# Altium integrated library con-molex.IntLib: 368 symbols (part 1 of 6)
Pins are listed as number, name and electrical type; pins without a type are passive.

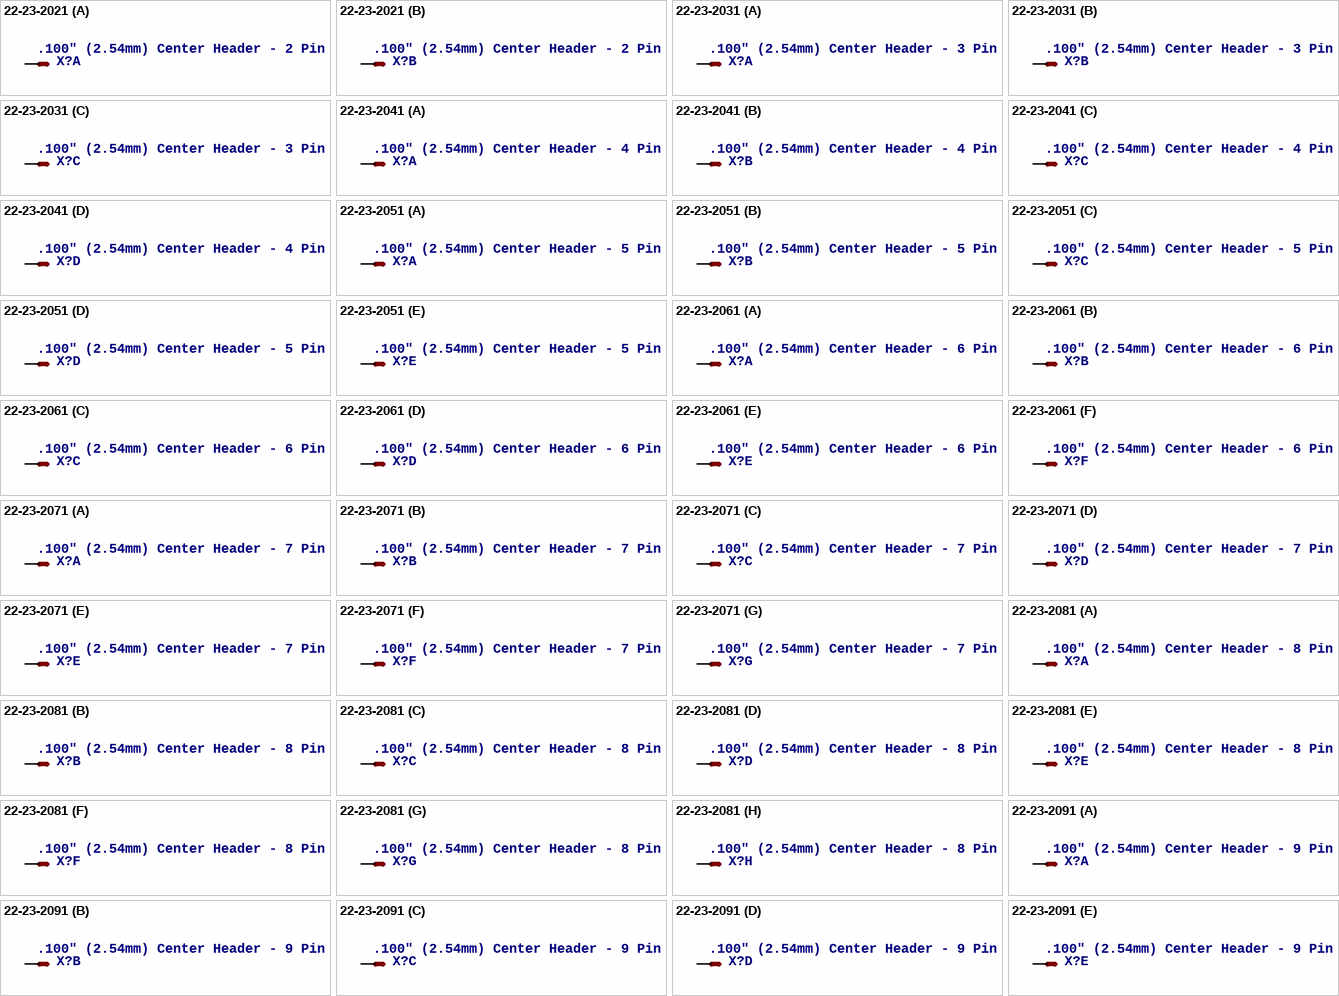
[diagram p0: symbols 22-23-2021 to 22-23-2091]

## 22-23-2021
designator X?, comment .100" (2.54mm) Center Header - 2 Pin
MF: MOLEX; MPN: 22-23-2021; OC_FARNELL: 1462926; OC_NEWARK: 25C3832
footprint 22-23-2021
part A pins: 1 S
part B pins: 2 S

## 22-23-2031
designator X?, comment .100" (2.54mm) Center Header - 3 Pin
MF: MOLEX; MPN: 22-23-2031; OC_FARNELL: 1462950; OC_NEWARK: 30C0862
footprint 22-23-2031
part A pins: 1 S
part B pins: 2 S
part C pins: 3 S

## 22-23-2041
designator X?, comment .100" (2.54mm) Center Header - 4 Pin
MF: MOLEX; MPN: 22-23-2041; OC_FARNELL: 1462920; OC_NEWARK: 38C0355
footprint 22-23-2041
part A pins: 1 S
part B pins: 2 S
part C pins: 3 S
part D pins: 4 S

## 22-23-2051
designator X?, comment .100" (2.54mm) Center Header - 5 Pin
MF: MOLEX; MPN: 22-23-2051; OC_FARNELL: 1462952; OC_NEWARK: 38C9178
footprint 22-23-2051
part A pins: 1 S
part B pins: 2 S
part C pins: 3 S
part D pins: 4 S
part E pins: 5 S

## 22-23-2061
designator X?, comment .100" (2.54mm) Center Header - 6 Pin
MF: MOLEX; MPN: 22-23-2061; OC_FARNELL: 1462922; OC_NEWARK: 27C1933
footprint 22-23-2061
part A pins: 1 S
part B pins: 2 S
part C pins: 3 S
part D pins: 4 S
part E pins: 5 S
part F pins: 6 S

## 22-23-2071
designator X?, comment .100" (2.54mm) Center Header - 7 Pin
MF: MOLEX; MPN: 22-23-2071; OC_FARNELL: 1654534; OC_NEWARK: 56H0445
footprint 22-23-2071
part A pins: 1 S
part B pins: 2 S
part C pins: 3 S
part D pins: 4 S
part E pins: 5 S
part F pins: 6 S
part G pins: 7 S

## 22-23-2081
designator X?, comment .100" (2.54mm) Center Header - 8 Pin
MF: MOLEX; MPN: 22-23-2081; OC_FARNELL: 1756826; OC_NEWARK: 01C7592
footprint 22-23-2081
part A pins: 1 S
part B pins: 2 S
part C pins: 3 S
part D pins: 4 S
part E pins: 5 S
part F pins: 6 S
part G pins: 7 S
part H pins: 8 S

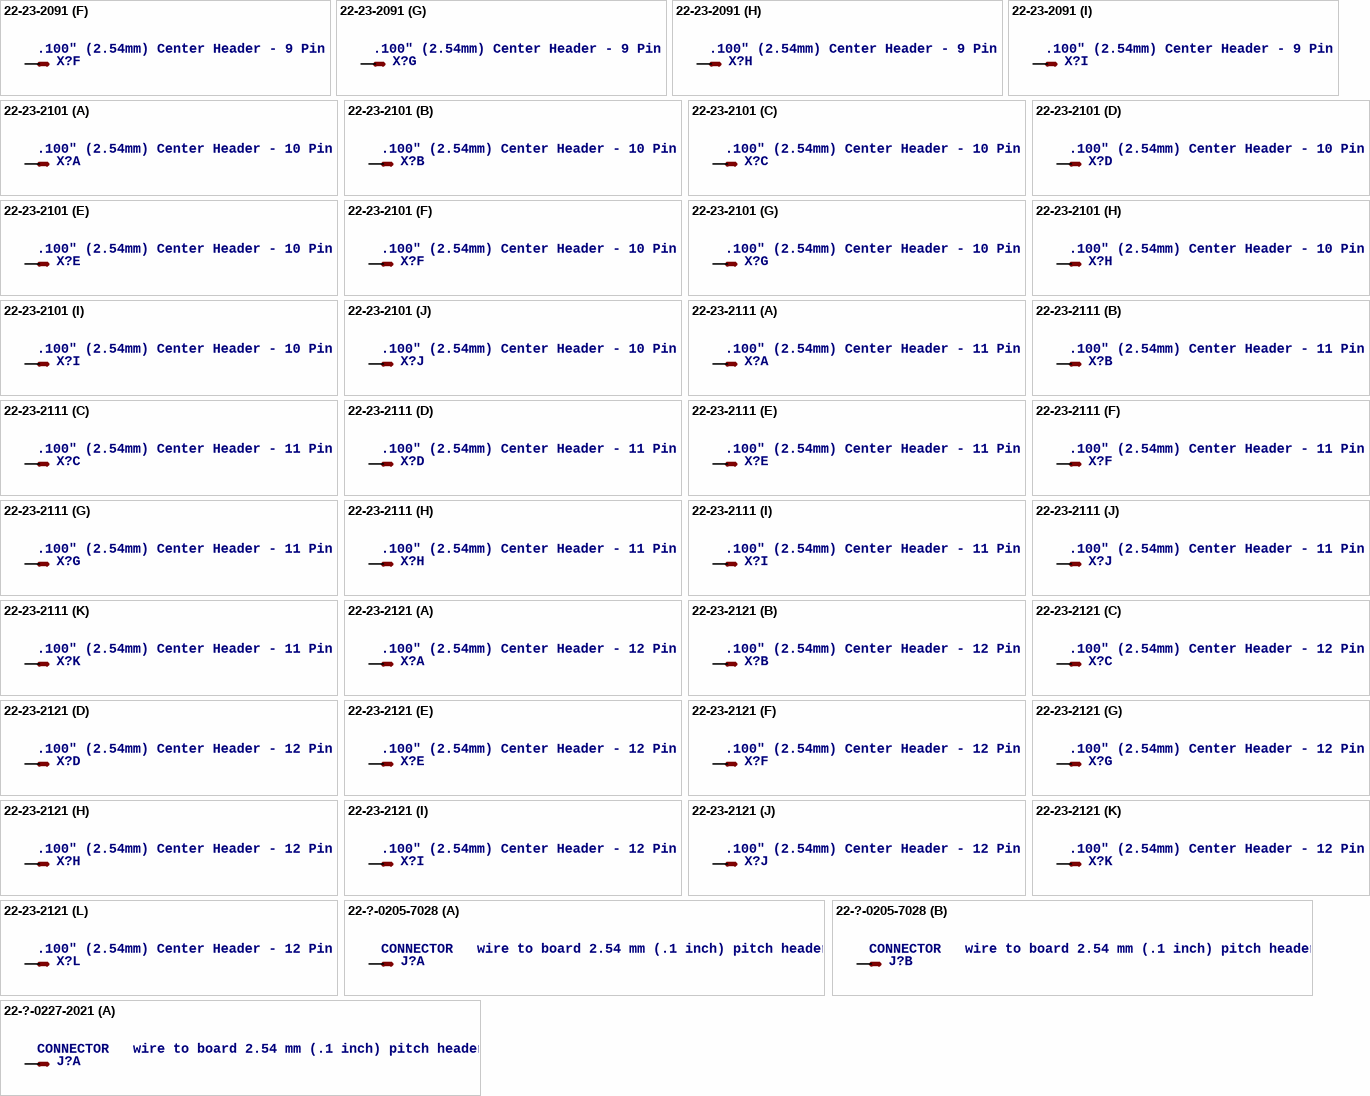
[diagram p1: symbols 22-23-2091 to 22-?-0227-2021]

## 22-23-2091
designator X?, comment .100" (2.54mm) Center Header - 9 Pin
MF: MOLEX; MPN: 22-23-2091; OC_FARNELL: 1756827; OC_NEWARK: 56H0450
footprint 22-23-2091
part A pins: 1 S
part B pins: 2 S
part C pins: 3 S
part D pins: 4 S
part E pins: 5 S
part F pins: 6 S
part G pins: 7 S
part H pins: 8 S
part I pins: 9 S

## 22-23-2101
designator X?, comment .100" (2.54mm) Center Header - 10 Pin
MF: MOLEX; MPN: 22-23-2101; OC_FARNELL: 1756828; OC_NEWARK: 94C0765
footprint 22-23-2101
part A pins: 1 S
part B pins: 2 S
part C pins: 3 S
part D pins: 4 S
part E pins: 5 S
part F pins: 6 S
part G pins: 7 S
part H pins: 8 S
part I pins: 9 S
part J pins: 10 S

## 22-23-2111
designator X?, comment .100" (2.54mm) Center Header - 11 Pin
MF: MOLEX; MPN: 22-23-2111; OC_FARNELL: 5388879; OC_NEWARK: 27C9916
footprint 22-23-2111
part A pins: 1 S
part B pins: 2 S
part C pins: 3 S
part D pins: 4 S
part E pins: 5 S
part F pins: 6 S
part G pins: 7 S
part H pins: 8 S
part I pins: 9 S
part J pins: 10 S
part K pins: 11 S

## 22-23-2121
designator X?, comment .100" (2.54mm) Center Header - 12 Pin
MF: MOLEX; MPN: 22-23-2121; OC_FARNELL: 1462935; OC_NEWARK: 56H0456
footprint 22-23-2121
part A pins: 1 S
part B pins: 2 S
part C pins: 3 S
part D pins: 4 S
part E pins: 5 S
part F pins: 6 S
part G pins: 7 S
part H pins: 8 S
part I pins: 9 S
part J pins: 10 S
part K pins: 11 S
part L pins: 12 S

## 22-?-0205-7028
designator J?, comment CONNECTOR   wire to board 2.54 mm (.1 inch) pitch header
OC_FARNELL: 9731601; OC_NEWARK: unknown
footprint 7395-02
part A pins: 1 S
part B pins: 2 S

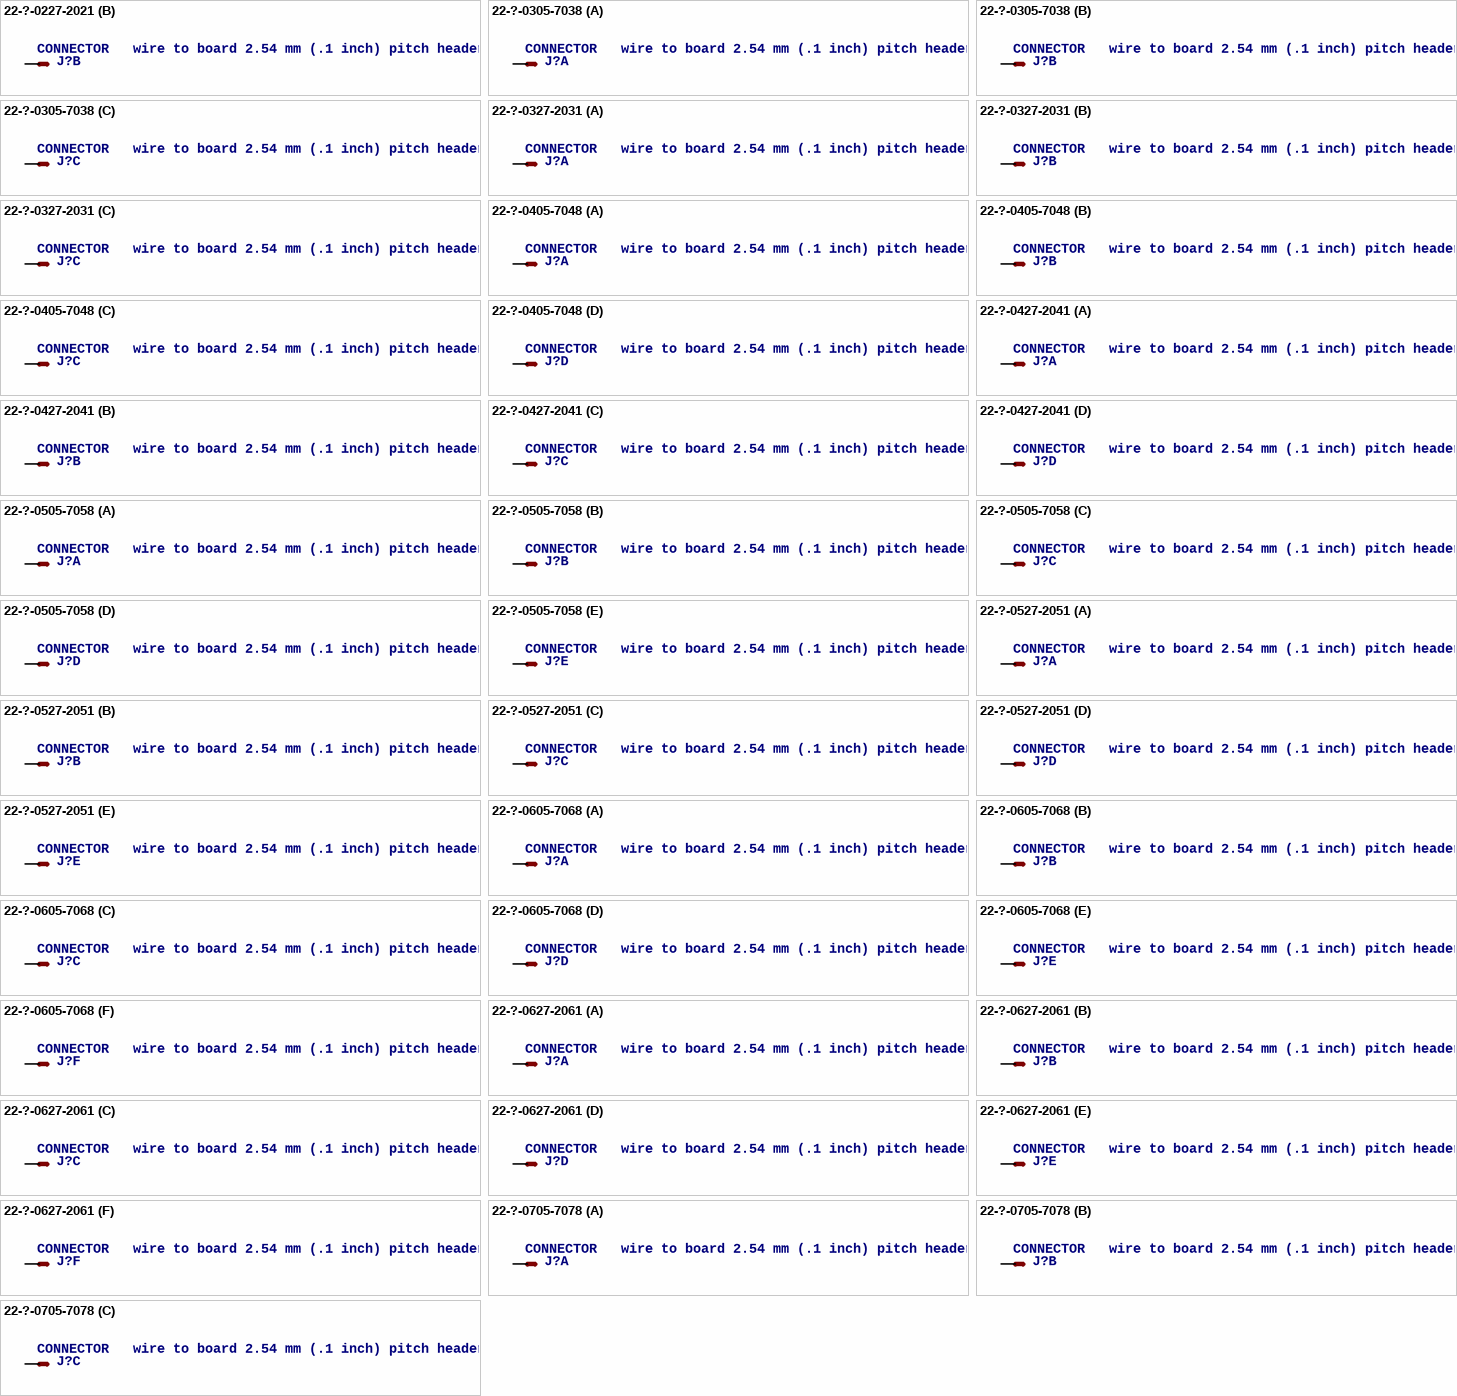
[diagram p2: symbols 22-?-0227-2021 to 22-?-0705-7078]

## 22-?-0227-2021
designator J?, comment CONNECTOR   wire to board 2.54 mm (.1 inch) pitch header
OC_FARNELL: unknown; OC_NEWARK: unknown
footprint 6410-02
part A pins: 1 S
part B pins: 2 S

## 22-?-0305-7038
designator J?, comment CONNECTOR   wire to board 2.54 mm (.1 inch) pitch header
OC_FARNELL: unknown; OC_NEWARK: unknown
footprint 7395-03
part A pins: 1 S
part B pins: 2 S
part C pins: 3 S

## 22-?-0327-2031
designator J?, comment CONNECTOR   wire to board 2.54 mm (.1 inch) pitch header
OC_FARNELL: unknown; OC_NEWARK: unknown
footprint 6410-03
part A pins: 1 S
part B pins: 2 S
part C pins: 3 S

## 22-?-0405-7048
designator J?, comment CONNECTOR   wire to board 2.54 mm (.1 inch) pitch header
OC_FARNELL: unknown; OC_NEWARK: unknown
footprint 7395-04
part A pins: 1 S
part B pins: 2 S
part C pins: 3 S
part D pins: 4 S

## 22-?-0427-2041
designator J?, comment CONNECTOR   wire to board 2.54 mm (.1 inch) pitch header
OC_FARNELL: unknown; OC_NEWARK: unknown
footprint 6410-04
part A pins: 1 S
part B pins: 2 S
part C pins: 3 S
part D pins: 4 S

## 22-?-0505-7058
designator J?, comment CONNECTOR   wire to board 2.54 mm (.1 inch) pitch header
OC_FARNELL: unknown; OC_NEWARK: unknown
footprint 7395-05
part A pins: 1 S
part B pins: 2 S
part C pins: 3 S
part D pins: 4 S
part E pins: 5 S

## 22-?-0527-2051
designator J?, comment CONNECTOR   wire to board 2.54 mm (.1 inch) pitch header
OC_FARNELL: unknown; OC_NEWARK: unknown
footprint 6410-05
part A pins: 1 S
part B pins: 2 S
part C pins: 3 S
part D pins: 4 S
part E pins: 5 S

## 22-?-0605-7068
designator J?, comment CONNECTOR   wire to board 2.54 mm (.1 inch) pitch header
OC_FARNELL: unknown; OC_NEWARK: unknown
footprint 7395-06
part A pins: 1 S
part B pins: 2 S
part C pins: 3 S
part D pins: 4 S
part E pins: 5 S
part F pins: 6 S

## 22-?-0627-2061
designator J?, comment CONNECTOR   wire to board 2.54 mm (.1 inch) pitch header
OC_FARNELL: unknown; OC_NEWARK: unknown
footprint 6410-06
part A pins: 1 S
part B pins: 2 S
part C pins: 3 S
part D pins: 4 S
part E pins: 5 S
part F pins: 6 S

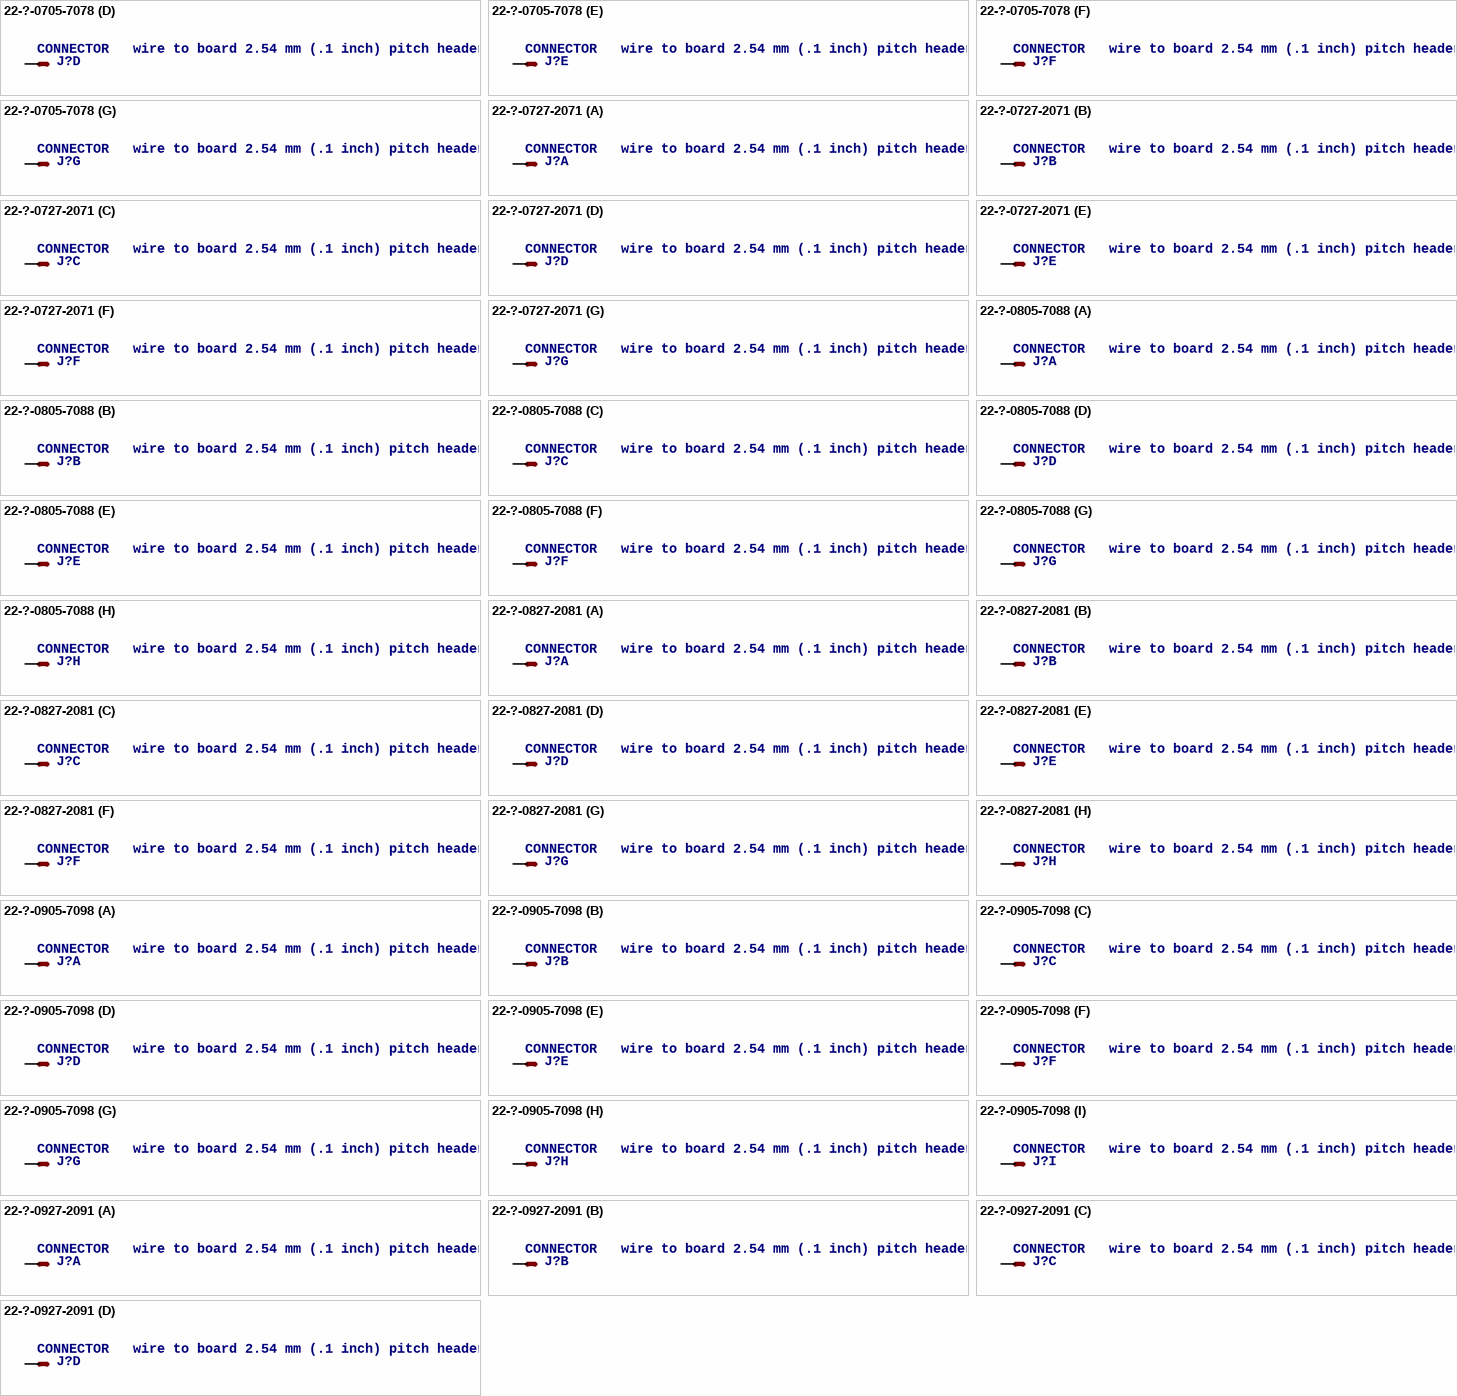
[diagram p3: symbols 22-?-0705-7078 to 22-?-0927-2091]

## 22-?-0705-7078
designator J?, comment CONNECTOR   wire to board 2.54 mm (.1 inch) pitch header
OC_FARNELL: unknown; OC_NEWARK: unknown
footprint 7395-07
part A pins: 1 S
part B pins: 2 S
part C pins: 3 S
part D pins: 4 S
part E pins: 5 S
part F pins: 6 S
part G pins: 7 S

## 22-?-0727-2071
designator J?, comment CONNECTOR   wire to board 2.54 mm (.1 inch) pitch header
OC_FARNELL: unknown; OC_NEWARK: unknown
footprint 6410-07
part A pins: 1 S
part B pins: 2 S
part C pins: 3 S
part D pins: 4 S
part E pins: 5 S
part F pins: 6 S
part G pins: 7 S

## 22-?-0805-7088
designator J?, comment CONNECTOR   wire to board 2.54 mm (.1 inch) pitch header
OC_FARNELL: unknown; OC_NEWARK: unknown
footprint 7395-08
part A pins: 1 S
part B pins: 2 S
part C pins: 3 S
part D pins: 4 S
part E pins: 5 S
part F pins: 6 S
part G pins: 7 S
part H pins: 8 S

## 22-?-0827-2081
designator J?, comment CONNECTOR   wire to board 2.54 mm (.1 inch) pitch header
OC_FARNELL: unknown; OC_NEWARK: unknown
footprint 6410-08
part A pins: 1 S
part B pins: 2 S
part C pins: 3 S
part D pins: 4 S
part E pins: 5 S
part F pins: 6 S
part G pins: 7 S
part H pins: 8 S

## 22-?-0905-7098
designator J?, comment CONNECTOR   wire to board 2.54 mm (.1 inch) pitch header
OC_FARNELL: unknown; OC_NEWARK: unknown
footprint 7395-09
part A pins: 1 S
part B pins: 2 S
part C pins: 3 S
part D pins: 4 S
part E pins: 5 S
part F pins: 6 S
part G pins: 7 S
part H pins: 8 S
part I pins: 9 S

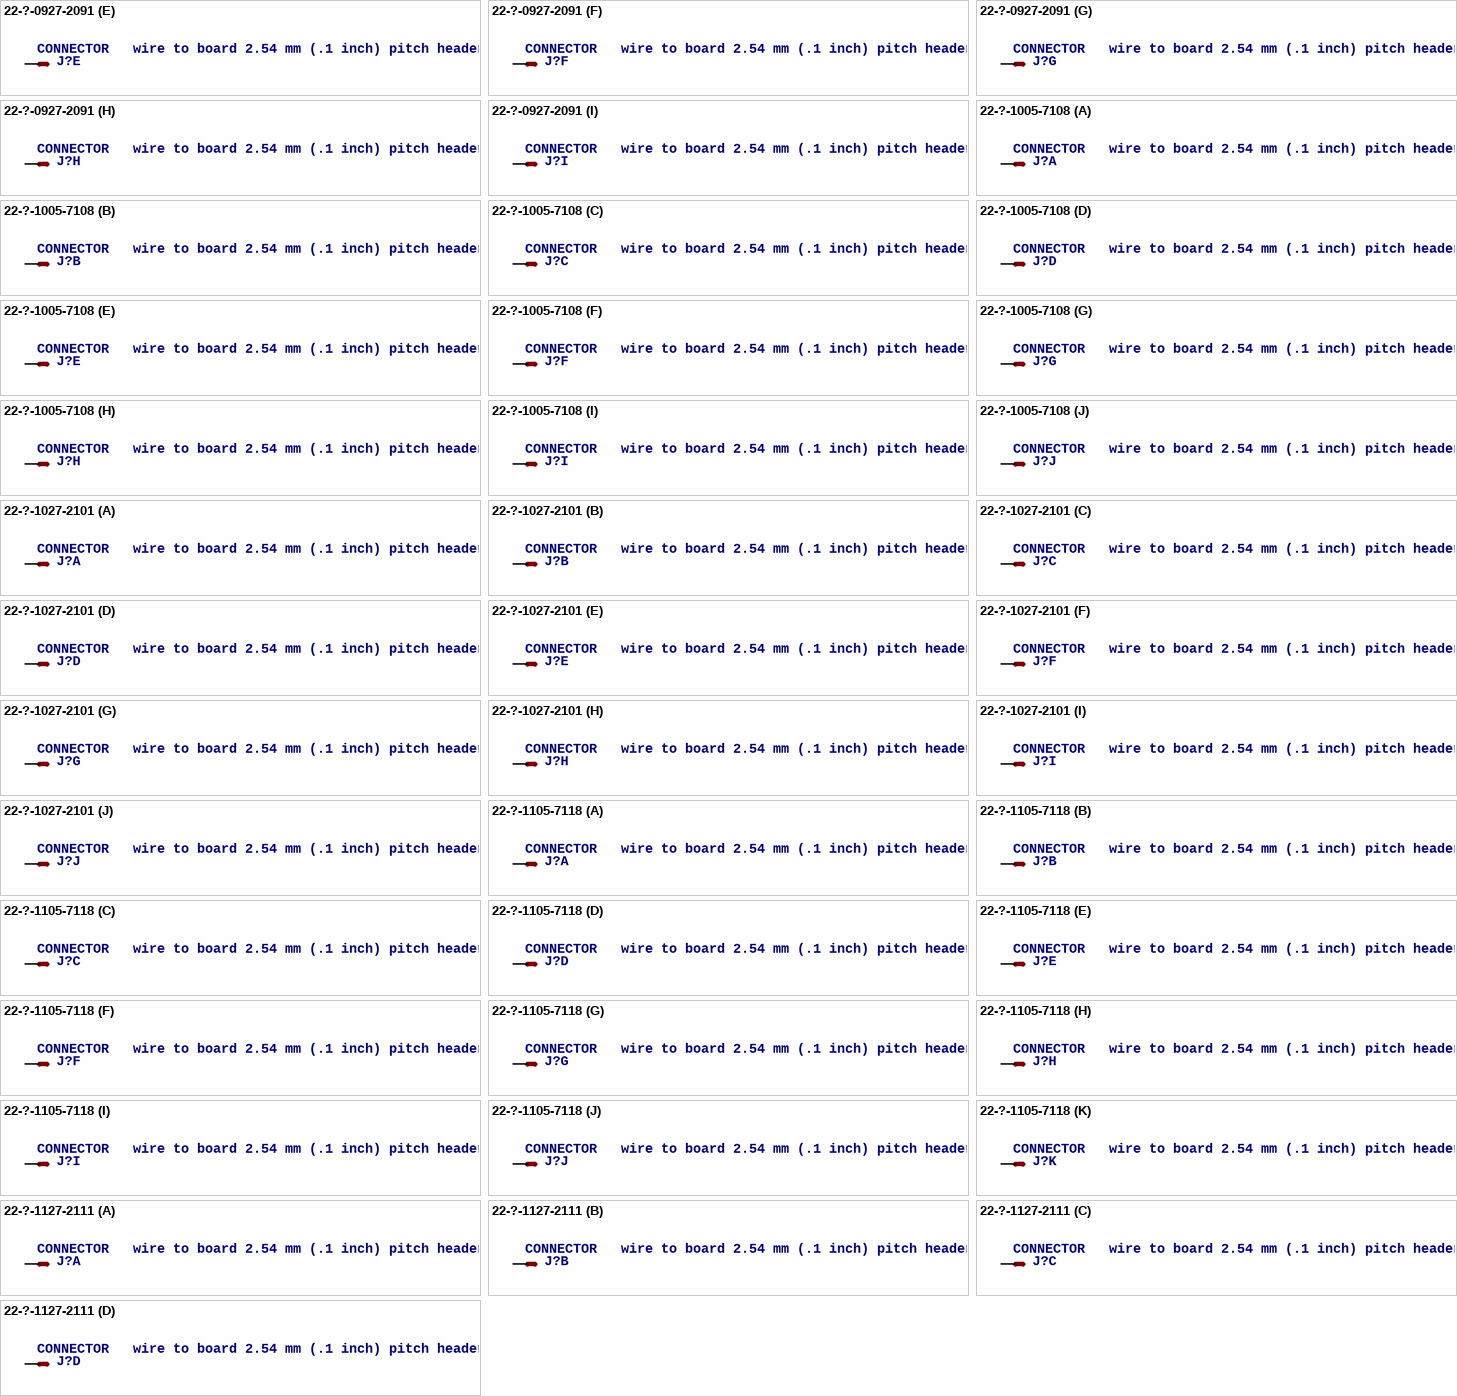
[diagram p4: symbols 22-?-0927-2091 to 22-?-1127-2111]

## 22-?-0927-2091
designator J?, comment CONNECTOR   wire to board 2.54 mm (.1 inch) pitch header
OC_FARNELL: unknown; OC_NEWARK: unknown
footprint 6410-09
part A pins: 1 S
part B pins: 2 S
part C pins: 3 S
part D pins: 4 S
part E pins: 5 S
part F pins: 6 S
part G pins: 7 S
part H pins: 8 S
part I pins: 9 S

## 22-?-1005-7108
designator J?, comment CONNECTOR   wire to board 2.54 mm (.1 inch) pitch header
OC_FARNELL: unknown; OC_NEWARK: unknown
footprint 7395-10
part A pins: 1 S
part B pins: 2 S
part C pins: 3 S
part D pins: 4 S
part E pins: 5 S
part F pins: 6 S
part G pins: 7 S
part H pins: 8 S
part I pins: 9 S
part J pins: 10 S

## 22-?-1027-2101
designator J?, comment CONNECTOR   wire to board 2.54 mm (.1 inch) pitch header
OC_FARNELL: unknown; OC_NEWARK: unknown
footprint 6410-10
part A pins: 1 S
part B pins: 2 S
part C pins: 3 S
part D pins: 4 S
part E pins: 5 S
part F pins: 6 S
part G pins: 7 S
part H pins: 8 S
part I pins: 9 S
part J pins: 10 S

## 22-?-1105-7118
designator J?, comment CONNECTOR   wire to board 2.54 mm (.1 inch) pitch header
OC_FARNELL: unknown; OC_NEWARK: unknown
footprint 7395-11
part A pins: 1 S
part B pins: 2 S
part C pins: 3 S
part D pins: 4 S
part E pins: 5 S
part F pins: 6 S
part G pins: 7 S
part H pins: 8 S
part I pins: 9 S
part J pins: 10 S
part K pins: 11 S

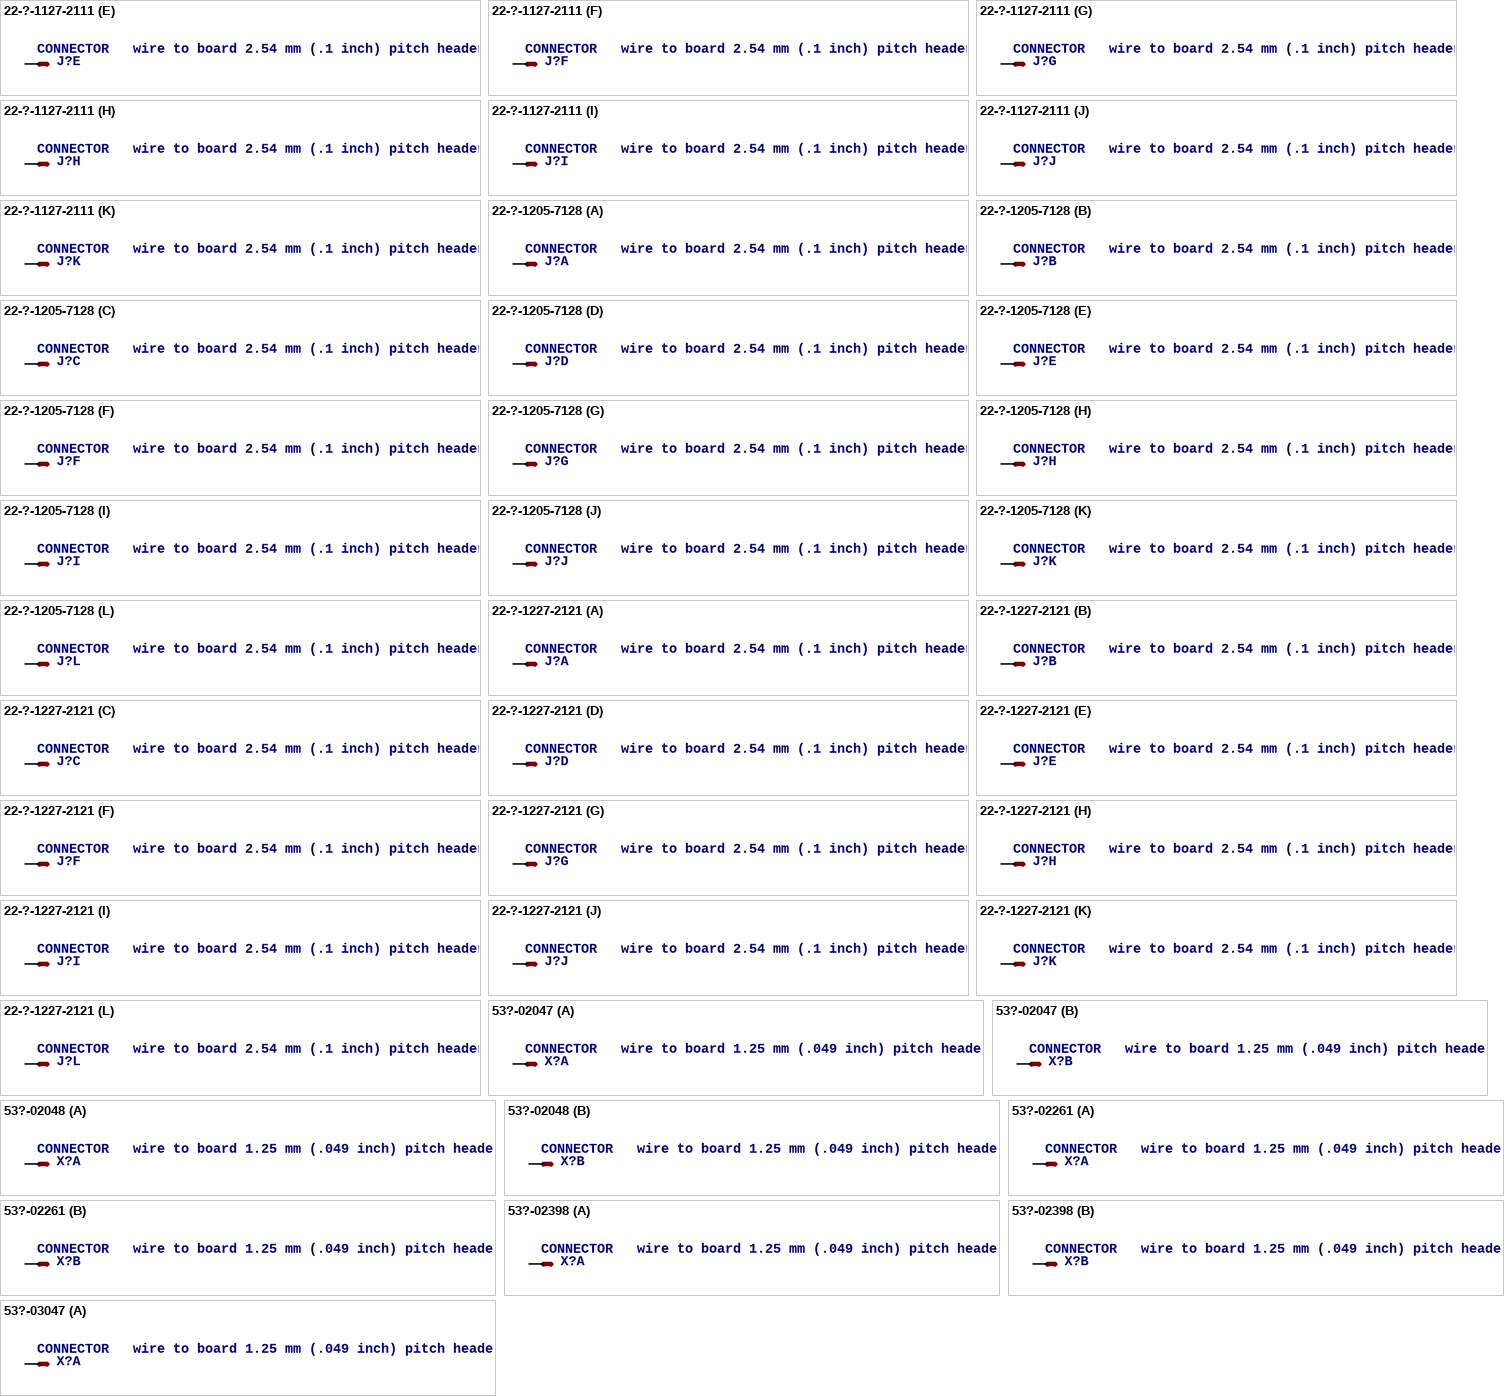
[diagram p5: symbols 22-?-1127-2111 to 53?-03047]

## 22-?-1127-2111
designator J?, comment CONNECTOR   wire to board 2.54 mm (.1 inch) pitch header
OC_FARNELL: unknown; OC_NEWARK: unknown
footprint 6410-11
part A pins: 1 S
part B pins: 2 S
part C pins: 3 S
part D pins: 4 S
part E pins: 5 S
part F pins: 6 S
part G pins: 7 S
part H pins: 8 S
part I pins: 9 S
part J pins: 10 S
part K pins: 11 S

## 22-?-1205-7128
designator J?, comment CONNECTOR   wire to board 2.54 mm (.1 inch) pitch header
OC_FARNELL: unknown; OC_NEWARK: unknown
footprint 7395-12
part A pins: 1 S
part B pins: 2 S
part C pins: 3 S
part D pins: 4 S
part E pins: 5 S
part F pins: 6 S
part G pins: 7 S
part H pins: 8 S
part I pins: 9 S
part J pins: 10 S
part K pins: 11 S
part L pins: 12 S

## 22-?-1227-2121
designator J?, comment CONNECTOR   wire to board 2.54 mm (.1 inch) pitch header
OC_FARNELL: unknown; OC_NEWARK: unknown
footprint 6410-12
part A pins: 1 S
part B pins: 2 S
part C pins: 3 S
part D pins: 4 S
part E pins: 5 S
part F pins: 6 S
part G pins: 7 S
part H pins: 8 S
part I pins: 9 S
part J pins: 10 S
part K pins: 11 S
part L pins: 12 S

## 53?-02047
designator X?, comment CONNECTOR   wire to board 1.25 mm (.049 inch) pitch header
MPN: 53047-0210; MF: MOLEX; OC_FARNELL: 9733051; OC_NEWARK: 57H4701
footprint 53047-02
part A pins: 1 S
part B pins: 2 S

## 53?-02048
designator X?, comment CONNECTOR   wire to board 1.25 mm (.049 inch) pitch header
MPN: 53048-0210; MF: MOLEX; OC_FARNELL: 1012259; OC_NEWARK: 57H4718
footprint 53048-02
part A pins: 1 S
part B pins: 2 S

## 53?-02261
designator X?, comment CONNECTOR   wire to board 1.25 mm (.049 inch) pitch header
OC_FARNELL: 1125373; OC_NEWARK: unknown
footprint 53261-02
part A pins: 1 S
part B pins: 2 S

## 53?-02398
designator X?, comment CONNECTOR   wire to board 1.25 mm (.049 inch) pitch header
OC_FARNELL: unknown; OC_NEWARK: unknown
footprint 53398-02
part A pins: 1 S
part B pins: 2 S

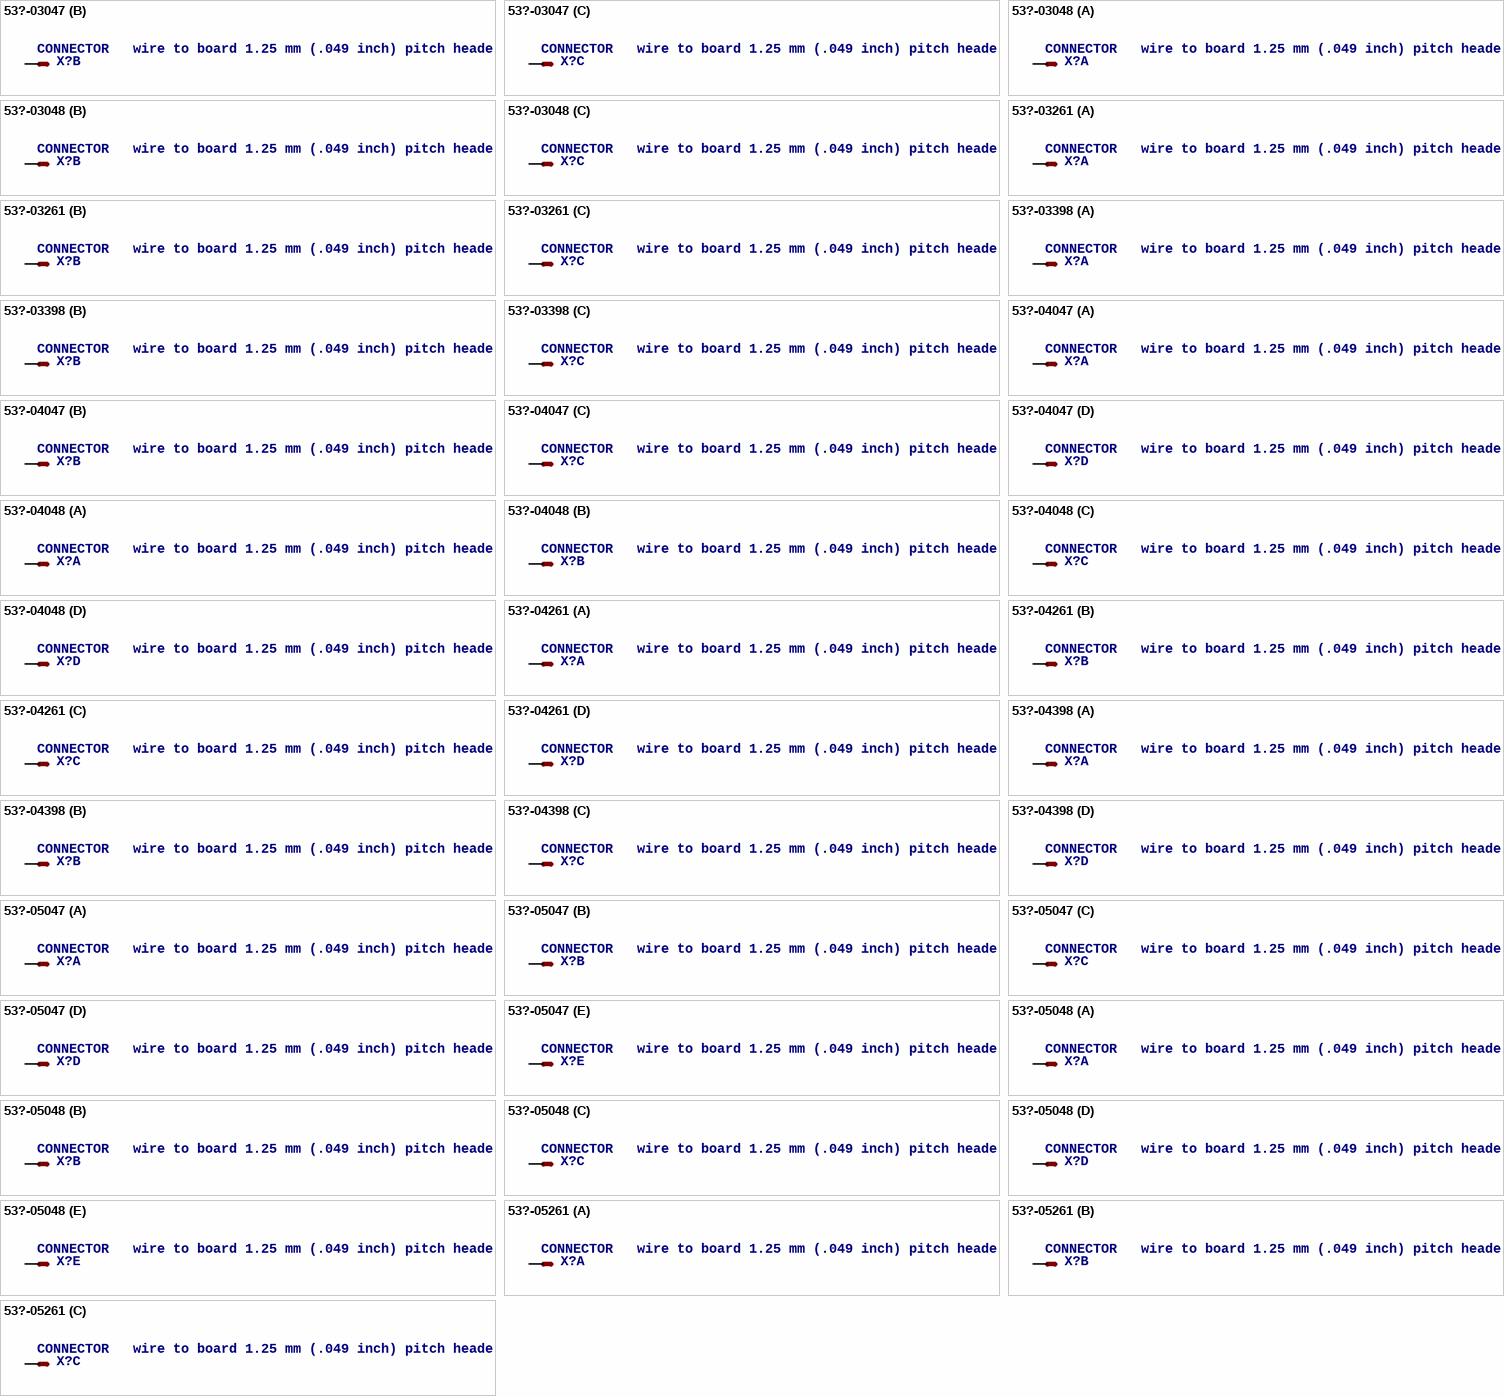
[diagram p6: symbols 53?-03047 to 53?-05261]

## 53?-03047
designator X?, comment CONNECTOR   wire to board 1.25 mm (.049 inch) pitch header
MPN: 530470310; OC_FARNELL: 9732853; OC_NEWARK: 14R5412
footprint 53047-03
part A pins: 1 S
part B pins: 2 S
part C pins: 3 S

## 53?-03048
designator X?, comment CONNECTOR   wire to board 1.25 mm (.049 inch) pitch header
MPN: 53048-0310; MF: WALDOM/MOLEX; OC_FARNELL: 9732918; OC_NEWARK: 38C9908
footprint 53048-03
part A pins: 1 S
part B pins: 2 S
part C pins: 3 S

## 53?-03261
designator X?, comment CONNECTOR   wire to board 1.25 mm (.049 inch) pitch header
MPN: 53261-0390; MF: MOLEX; OC_FARNELL: 1125359; OC_NEWARK: 57H5006
footprint 53261-03
part A pins: 1 S
part B pins: 2 S
part C pins: 3 S

## 53?-03398
designator X?, comment CONNECTOR   wire to board 1.25 mm (.049 inch) pitch header
OC_FARNELL: unknown; OC_NEWARK: unknown
footprint 53398-03
part A pins: 1 S
part B pins: 2 S
part C pins: 3 S

## 53?-04047
designator X?, comment CONNECTOR   wire to board 1.25 mm (.049 inch) pitch header
MPN: 53047-0410; MF: WALDOM/MOLEX; OC_FARNELL: 9733060; OC_NEWARK: 38C9900
footprint 53047-04
part A pins: 1 S
part B pins: 2 S
part C pins: 3 S
part D pins: 4 S

## 53?-04048
designator X?, comment CONNECTOR   wire to board 1.25 mm (.049 inch) pitch header
MPN: 53048-0410; MF: MOLEX; OC_FARNELL: 1462887; OC_NEWARK: 57H4721
footprint 53048-04
part A pins: 1 S
part B pins: 2 S
part C pins: 3 S
part D pins: 4 S

## 53?-04261
designator X?, comment CONNECTOR   wire to board 1.25 mm (.049 inch) pitch header
OC_FARNELL: 1125374; OC_NEWARK: unknown
footprint 53261-04
part A pins: 1 S
part B pins: 2 S
part C pins: 3 S
part D pins: 4 S

## 53?-04398
designator X?, comment CONNECTOR   wire to board 1.25 mm (.049 inch) pitch header
OC_FARNELL: 1125367; OC_NEWARK: unknown
footprint 53398-04
part A pins: 1 S
part B pins: 2 S
part C pins: 3 S
part D pins: 4 S

## 53?-05047
designator X?, comment CONNECTOR   wire to board 1.25 mm (.049 inch) pitch header
MPN: 53047-0510; MF: MOLEX; OC_FARNELL: 9732861; OC_NEWARK: 38C9901
footprint 53047-05
part A pins: 1 S
part B pins: 2 S
part C pins: 3 S
part D pins: 4 S
part E pins: 5 S

## 53?-05048
designator X?, comment CONNECTOR   wire to board 1.25 mm (.049 inch) pitch header
MPN: 53048-0510; MF: MOLEX; OC_FARNELL: 9732926; OC_NEWARK: 57H4722
footprint 53048-05
part A pins: 1 S
part B pins: 2 S
part C pins: 3 S
part D pins: 4 S
part E pins: 5 S

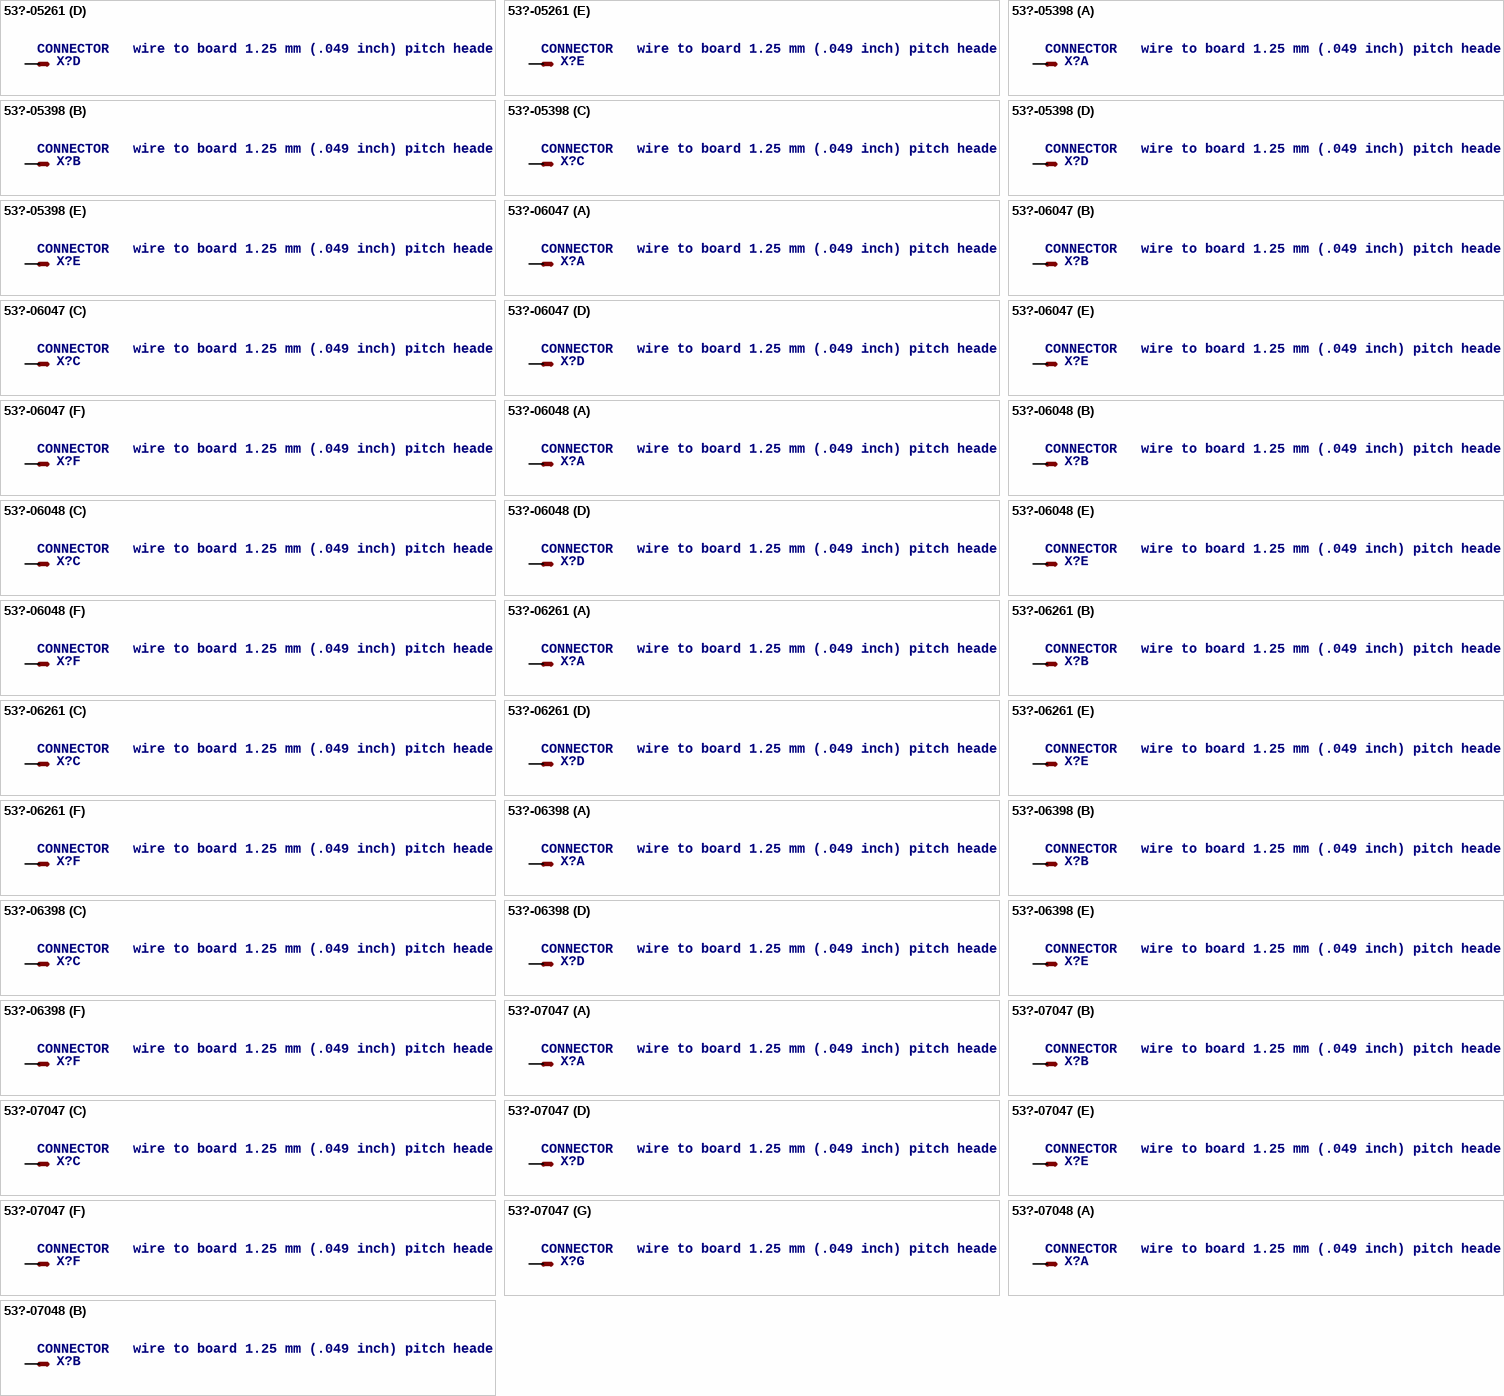
[diagram p7: symbols 53?-05261 to 53?-07048]

## 53?-05261
designator X?, comment CONNECTOR   wire to board 1.25 mm (.049 inch) pitch header
OC_FARNELL: 1433644; OC_NEWARK: unknown
footprint 53261-05
part A pins: 1 S
part B pins: 2 S
part C pins: 3 S
part D pins: 4 S
part E pins: 5 S

## 53?-05398
designator X?, comment CONNECTOR   wire to board 1.25 mm (.049 inch) pitch header
OC_FARNELL: 1125354; OC_NEWARK: unknown
footprint 53398-05
part A pins: 1 S
part B pins: 2 S
part C pins: 3 S
part D pins: 4 S
part E pins: 5 S

## 53?-06047
designator X?, comment CONNECTOR   wire to board 1.25 mm (.049 inch) pitch header
MPN: 53047-0610-C; OC_FARNELL: 9733078; OC_NEWARK: 03M2965
footprint 53047-06
part A pins: 1 S
part B pins: 2 S
part C pins: 3 S
part D pins: 4 S
part E pins: 5 S
part F pins: 6 S

## 53?-06048
designator X?, comment CONNECTOR   wire to board 1.25 mm (.049 inch) pitch header
MPN: 53048-0610; MF: WALDOM/MOLEX; OC_FARNELL: 1012260; OC_NEWARK: 38C9911
footprint 53048-06
part A pins: 1 S
part B pins: 2 S
part C pins: 3 S
part D pins: 4 S
part E pins: 5 S
part F pins: 6 S

## 53?-06261
designator X?, comment CONNECTOR   wire to board 1.25 mm (.049 inch) pitch header
OC_FARNELL: 1125375; OC_NEWARK: unknown
footprint 53261-06
part A pins: 1 S
part B pins: 2 S
part C pins: 3 S
part D pins: 4 S
part E pins: 5 S
part F pins: 6 S

## 53?-06398
designator X?, comment CONNECTOR   wire to board 1.25 mm (.049 inch) pitch header
OC_FARNELL: 1125368; OC_NEWARK: unknown
footprint 53398-06
part A pins: 1 S
part B pins: 2 S
part C pins: 3 S
part D pins: 4 S
part E pins: 5 S
part F pins: 6 S

## 53?-07047
designator X?, comment CONNECTOR   wire to board 1.25 mm (.049 inch) pitch header
MPN: 53047-0710-C; OC_FARNELL: 9732870; OC_NEWARK: 11M0149
footprint 53047-07
part A pins: 1 S
part B pins: 2 S
part C pins: 3 S
part D pins: 4 S
part E pins: 5 S
part F pins: 6 S
part G pins: 7 S

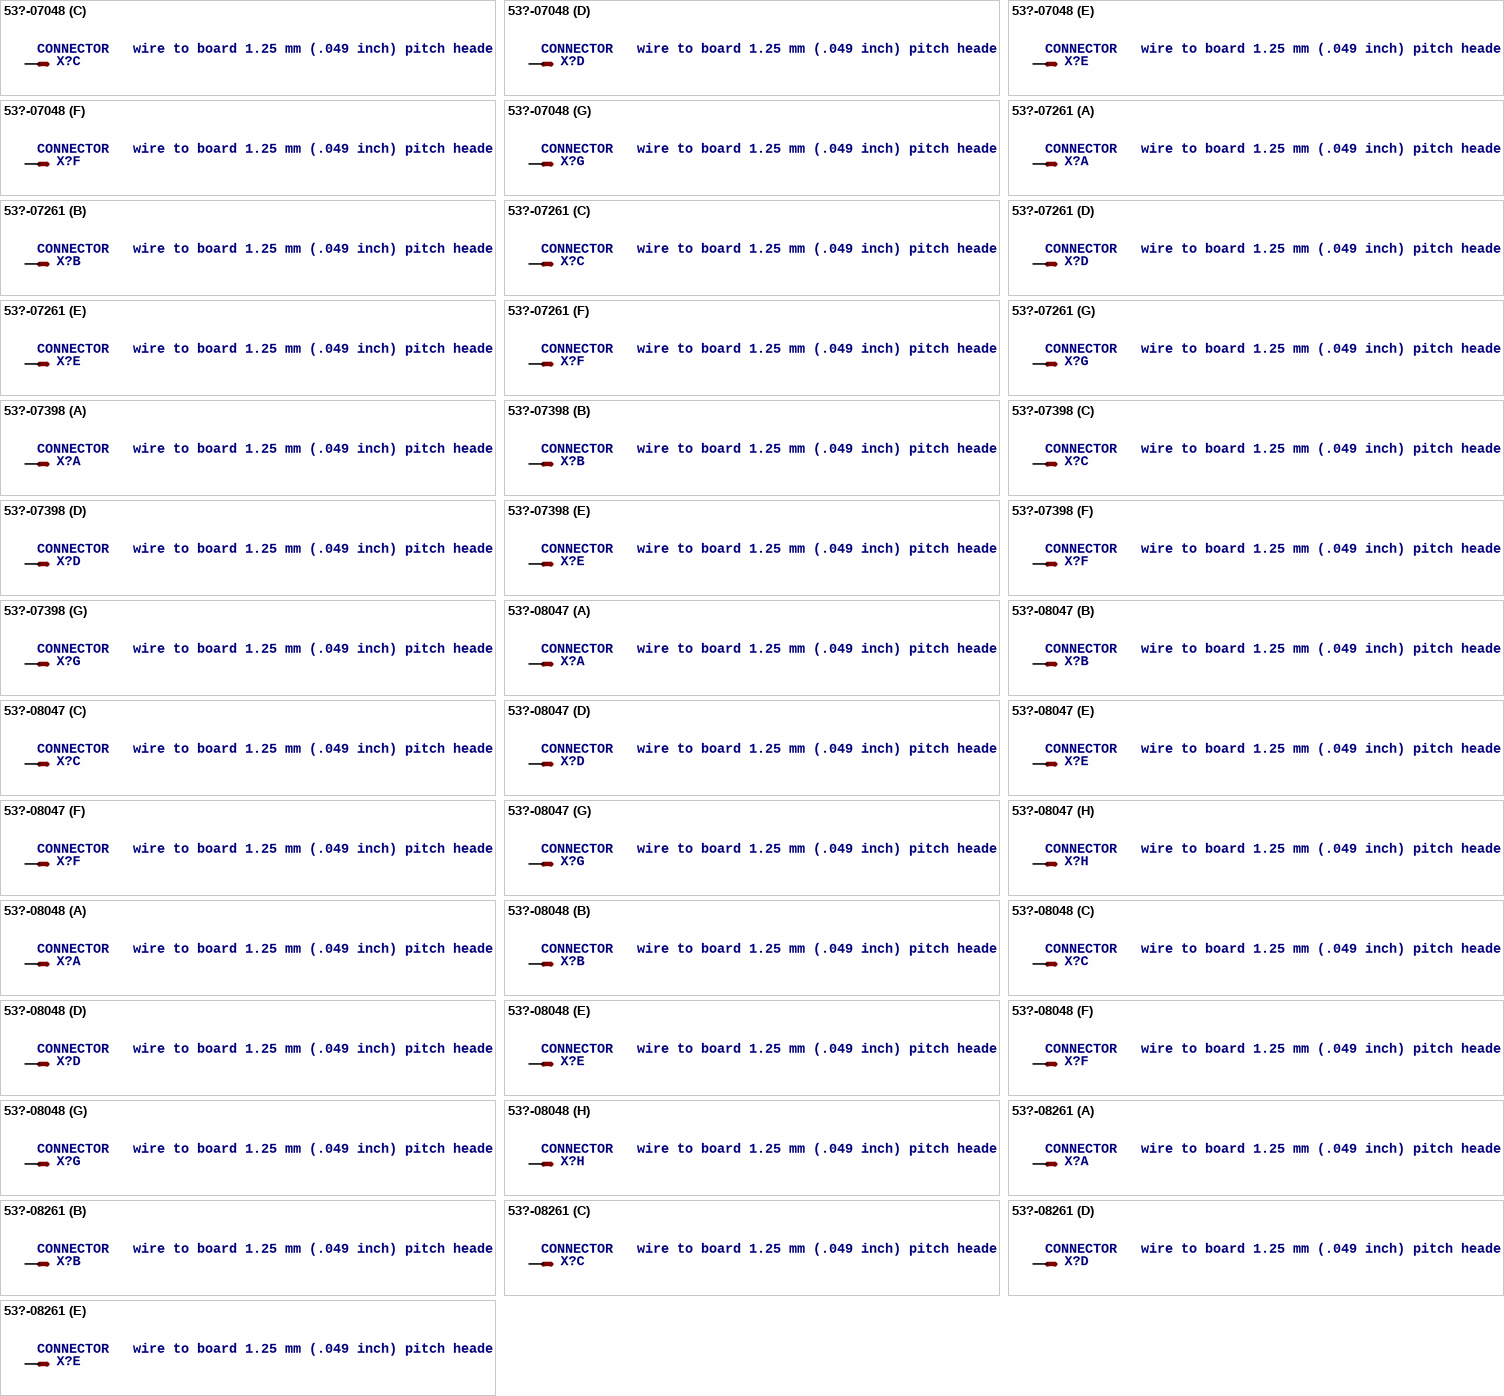
[diagram p8: symbols 53?-07048 to 53?-08261]

## 53?-07048
designator X?, comment CONNECTOR   wire to board 1.25 mm (.049 inch) pitch header
MPN: 53048-0710; OC_FARNELL: 9732934; OC_NEWARK: 98K9835
footprint 53048-07
part A pins: 1 S
part B pins: 2 S
part C pins: 3 S
part D pins: 4 S
part E pins: 5 S
part F pins: 6 S
part G pins: 7 S

## 53?-07261
designator X?, comment CONNECTOR   wire to board 1.25 mm (.049 inch) pitch header
OC_FARNELL: 1125361; OC_NEWARK: unknown
footprint 53261-07
part A pins: 1 S
part B pins: 2 S
part C pins: 3 S
part D pins: 4 S
part E pins: 5 S
part F pins: 6 S
part G pins: 7 S

## 53?-07398
designator X?, comment CONNECTOR   wire to board 1.25 mm (.049 inch) pitch header
OC_FARNELL: 9786368; OC_NEWARK: unknown
footprint 53398-07
part A pins: 1 S
part B pins: 2 S
part C pins: 3 S
part D pins: 4 S
part E pins: 5 S
part F pins: 6 S
part G pins: 7 S

## 53?-08047
designator X?, comment CONNECTOR   wire to board 1.25 mm (.049 inch) pitch header
MPN: 53047-0810; OC_FARNELL: 1012258; OC_NEWARK: 98K9826
footprint 53047-08
part A pins: 1 S
part B pins: 2 S
part C pins: 3 S
part D pins: 4 S
part E pins: 5 S
part F pins: 6 S
part G pins: 7 S
part H pins: 8 S

## 53?-08048
designator X?, comment CONNECTOR   wire to board 1.25 mm (.049 inch) pitch header
MPN: 53048-0810; MF: WALDOM/MOLEX; OC_FARNELL: 9733094; OC_NEWARK: 38C9913
footprint 53048-08
part A pins: 1 S
part B pins: 2 S
part C pins: 3 S
part D pins: 4 S
part E pins: 5 S
part F pins: 6 S
part G pins: 7 S
part H pins: 8 S

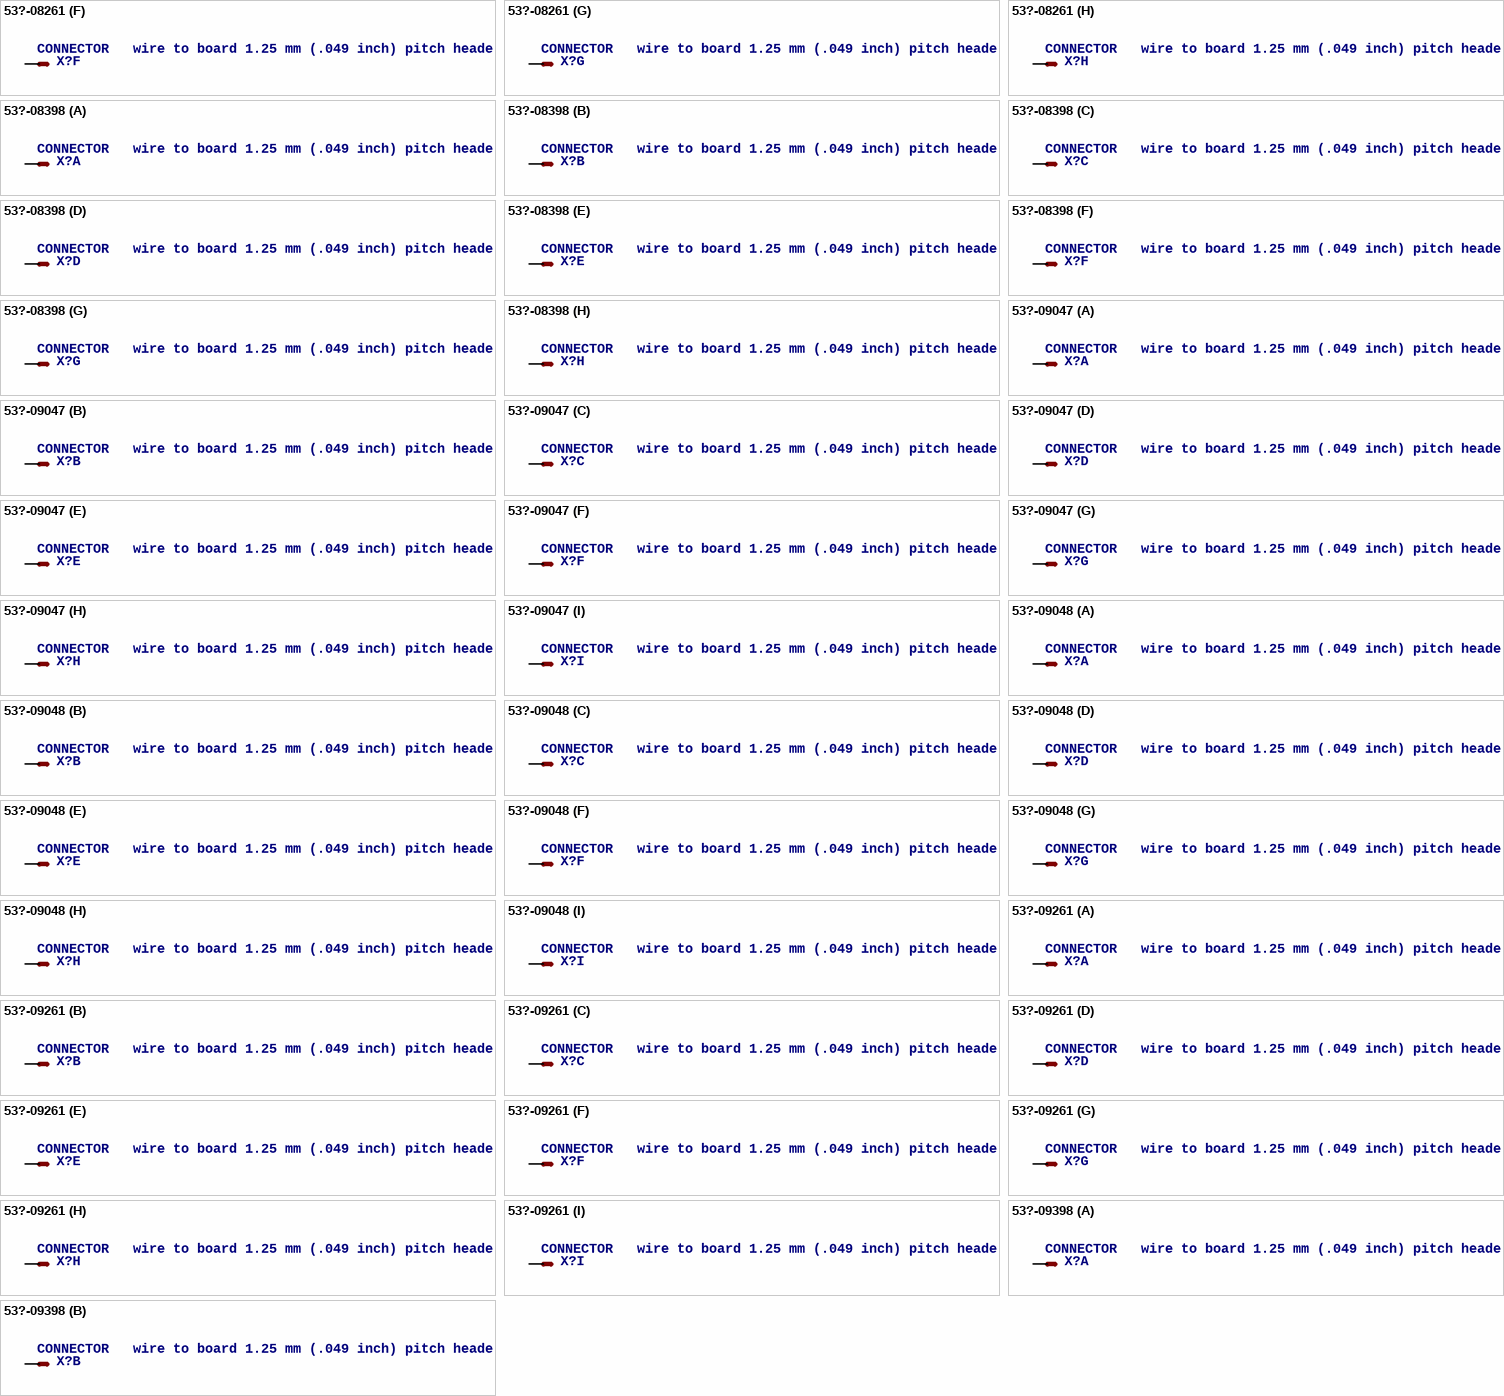
[diagram p9: symbols 53?-08261 to 53?-09398]

## 53?-08261
designator X?, comment CONNECTOR   wire to board 1.25 mm (.049 inch) pitch header
OC_FARNELL: 1125376; OC_NEWARK: unknown
footprint 53261-08
part A pins: 1 S
part B pins: 2 S
part C pins: 3 S
part D pins: 4 S
part E pins: 5 S
part F pins: 6 S
part G pins: 7 S
part H pins: 8 S

## 53?-08398
designator X?, comment CONNECTOR   wire to board 1.25 mm (.049 inch) pitch header
OC_FARNELL: 1125371; OC_NEWARK: unknown
footprint 53398-08
part A pins: 1 S
part B pins: 2 S
part C pins: 3 S
part D pins: 4 S
part E pins: 5 S
part F pins: 6 S
part G pins: 7 S
part H pins: 8 S

## 53?-09047
designator X?, comment CONNECTOR   wire to board 1.25 mm (.049 inch) pitch header
MPN: 53047-0910; OC_FARNELL: 9732888; OC_NEWARK: 98K9827
footprint 53047-09
part A pins: 1 S
part B pins: 2 S
part C pins: 3 S
part D pins: 4 S
part E pins: 5 S
part F pins: 6 S
part G pins: 7 S
part H pins: 8 S
part I pins: 9 S

## 53?-09048
designator X?, comment CONNECTOR   wire to board 1.25 mm (.049 inch) pitch header
MPN: 53048-0910; OC_FARNELL: 1012239; OC_NEWARK: 98K9837
footprint 53048-09
part A pins: 1 S
part B pins: 2 S
part C pins: 3 S
part D pins: 4 S
part E pins: 5 S
part F pins: 6 S
part G pins: 7 S
part H pins: 8 S
part I pins: 9 S

## 53?-09261
designator X?, comment CONNECTOR   wire to board 1.25 mm (.049 inch) pitch header
MPN: 53261-0971; OC_FARNELL: 1125362; OC_NEWARK: 93K4249
footprint 53261-09
part A pins: 1 S
part B pins: 2 S
part C pins: 3 S
part D pins: 4 S
part E pins: 5 S
part F pins: 6 S
part G pins: 7 S
part H pins: 8 S
part I pins: 9 S

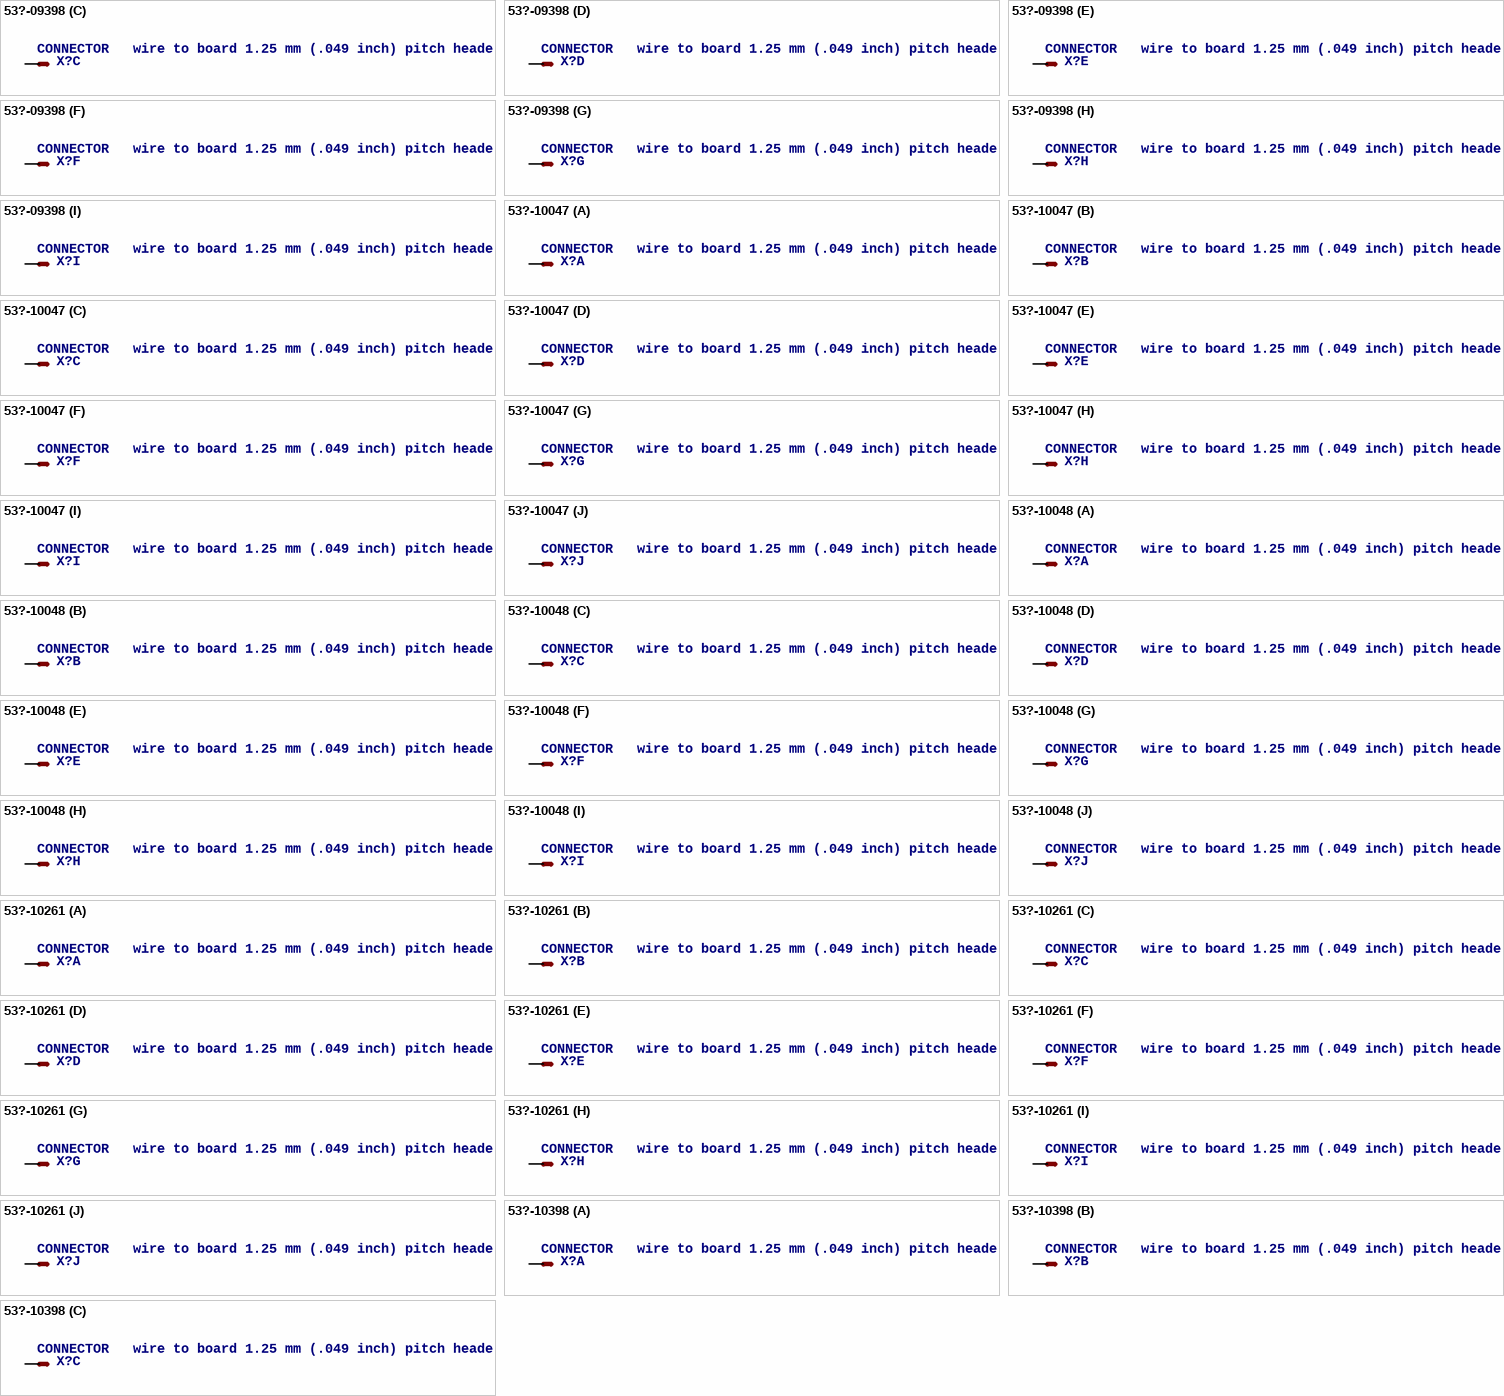
[diagram p10: symbols 53?-09398 to 53?-10398]

## 53?-09398
designator X?, comment CONNECTOR   wire to board 1.25 mm (.049 inch) pitch header
OC_FARNELL: unknown; OC_NEWARK: unknown
footprint 53398-09
part A pins: 1 S
part B pins: 2 S
part C pins: 3 S
part D pins: 4 S
part E pins: 5 S
part F pins: 6 S
part G pins: 7 S
part H pins: 8 S
part I pins: 9 S

## 53?-10047
designator X?, comment CONNECTOR   wire to board 1.25 mm (.049 inch) pitch header
MPN: 53047-1010; MF: MOLEX; OC_FARNELL: 9733086; OC_NEWARK: 57H4711
footprint 53047-10
part A pins: 1 S
part B pins: 2 S
part C pins: 3 S
part D pins: 4 S
part E pins: 5 S
part F pins: 6 S
part G pins: 7 S
part H pins: 8 S
part I pins: 9 S
part J pins: 10 S

## 53?-10048
designator X?, comment CONNECTOR   wire to board 1.25 mm (.049 inch) pitch header
MPN: 53048-1010; OC_FARNELL: 9733108; OC_NEWARK: 98K9838
footprint 53048-10
part A pins: 1 S
part B pins: 2 S
part C pins: 3 S
part D pins: 4 S
part E pins: 5 S
part F pins: 6 S
part G pins: 7 S
part H pins: 8 S
part I pins: 9 S
part J pins: 10 S

## 53?-10261
designator X?, comment CONNECTOR   wire to board 1.25 mm (.049 inch) pitch header
OC_FARNELL: unknown; OC_NEWARK: unknown
footprint 53261-10
part A pins: 1 S
part B pins: 2 S
part C pins: 3 S
part D pins: 4 S
part E pins: 5 S
part F pins: 6 S
part G pins: 7 S
part H pins: 8 S
part I pins: 9 S
part J pins: 10 S

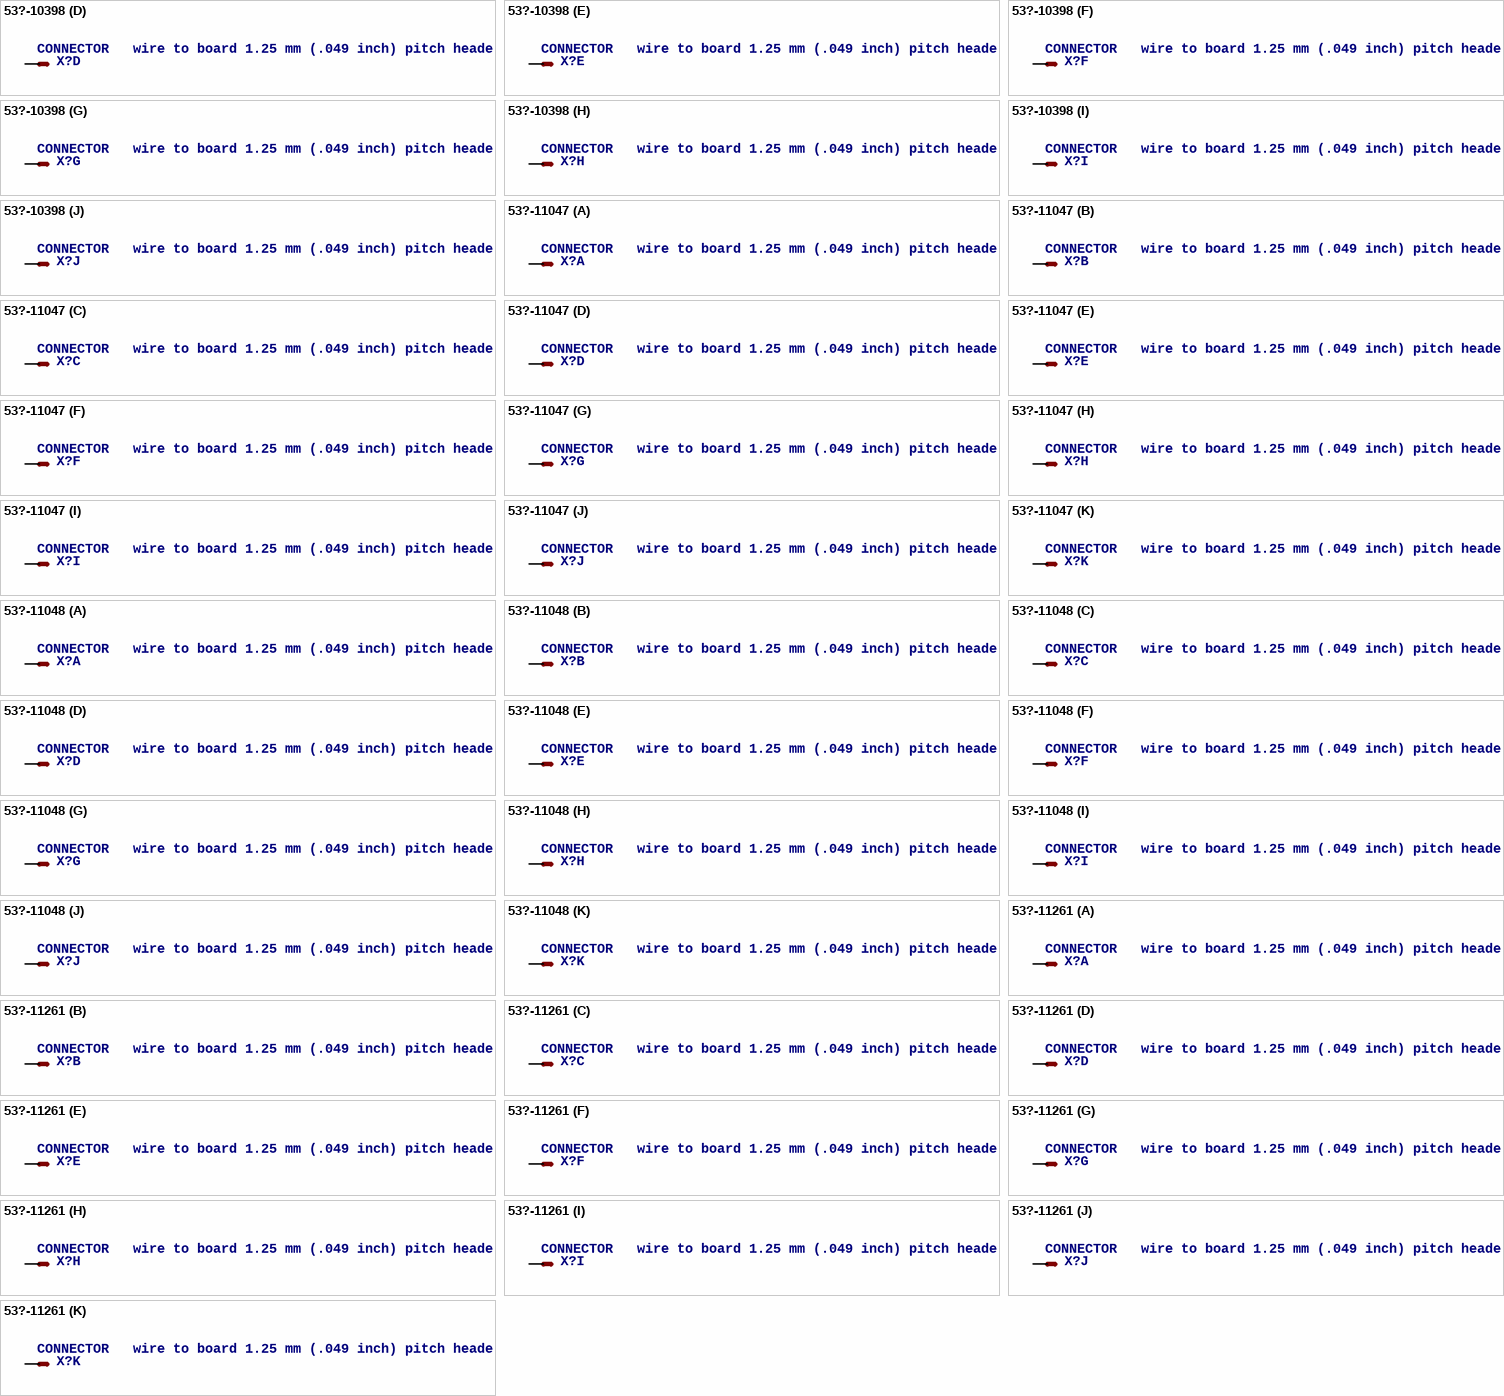
[diagram p11: symbols 53?-10398 to 53?-11261]

## 53?-10398
designator X?, comment CONNECTOR   wire to board 1.25 mm (.049 inch) pitch header
MPN: 53398-1071; MF: MOLEX; OC_FARNELL: unknown; OC_NEWARK: 59J0425
footprint 53398-10
part A pins: 1 S
part B pins: 2 S
part C pins: 3 S
part D pins: 4 S
part E pins: 5 S
part F pins: 6 S
part G pins: 7 S
part H pins: 8 S
part I pins: 9 S
part J pins: 10 S

## 53?-11047
designator X?, comment CONNECTOR   wire to board 1.25 mm (.049 inch) pitch header
MPN: 53047-1110; MF: WALDOM/MOLEX; OC_FARNELL: unknown; OC_NEWARK: 18M8168
footprint 53047-11
part A pins: 1 S
part B pins: 2 S
part C pins: 3 S
part D pins: 4 S
part E pins: 5 S
part F pins: 6 S
part G pins: 7 S
part H pins: 8 S
part I pins: 9 S
part J pins: 10 S
part K pins: 11 S

## 53?-11048
designator X?, comment CONNECTOR   wire to board 1.25 mm (.049 inch) pitch header
MPN: 53048-1110; OC_FARNELL: unknown; OC_NEWARK: 28M9451
footprint 53048-11
part A pins: 1 S
part B pins: 2 S
part C pins: 3 S
part D pins: 4 S
part E pins: 5 S
part F pins: 6 S
part G pins: 7 S
part H pins: 8 S
part I pins: 9 S
part J pins: 10 S
part K pins: 11 S

## 53?-11261
designator X?, comment CONNECTOR   wire to board 1.25 mm (.049 inch) pitch header
MPN: 53261-1171; OC_FARNELL: 1756926; OC_NEWARK: 58K8238
footprint 53261-11
part A pins: 1 S
part B pins: 2 S
part C pins: 3 S
part D pins: 4 S
part E pins: 5 S
part F pins: 6 S
part G pins: 7 S
part H pins: 8 S
part I pins: 9 S
part J pins: 10 S
part K pins: 11 S

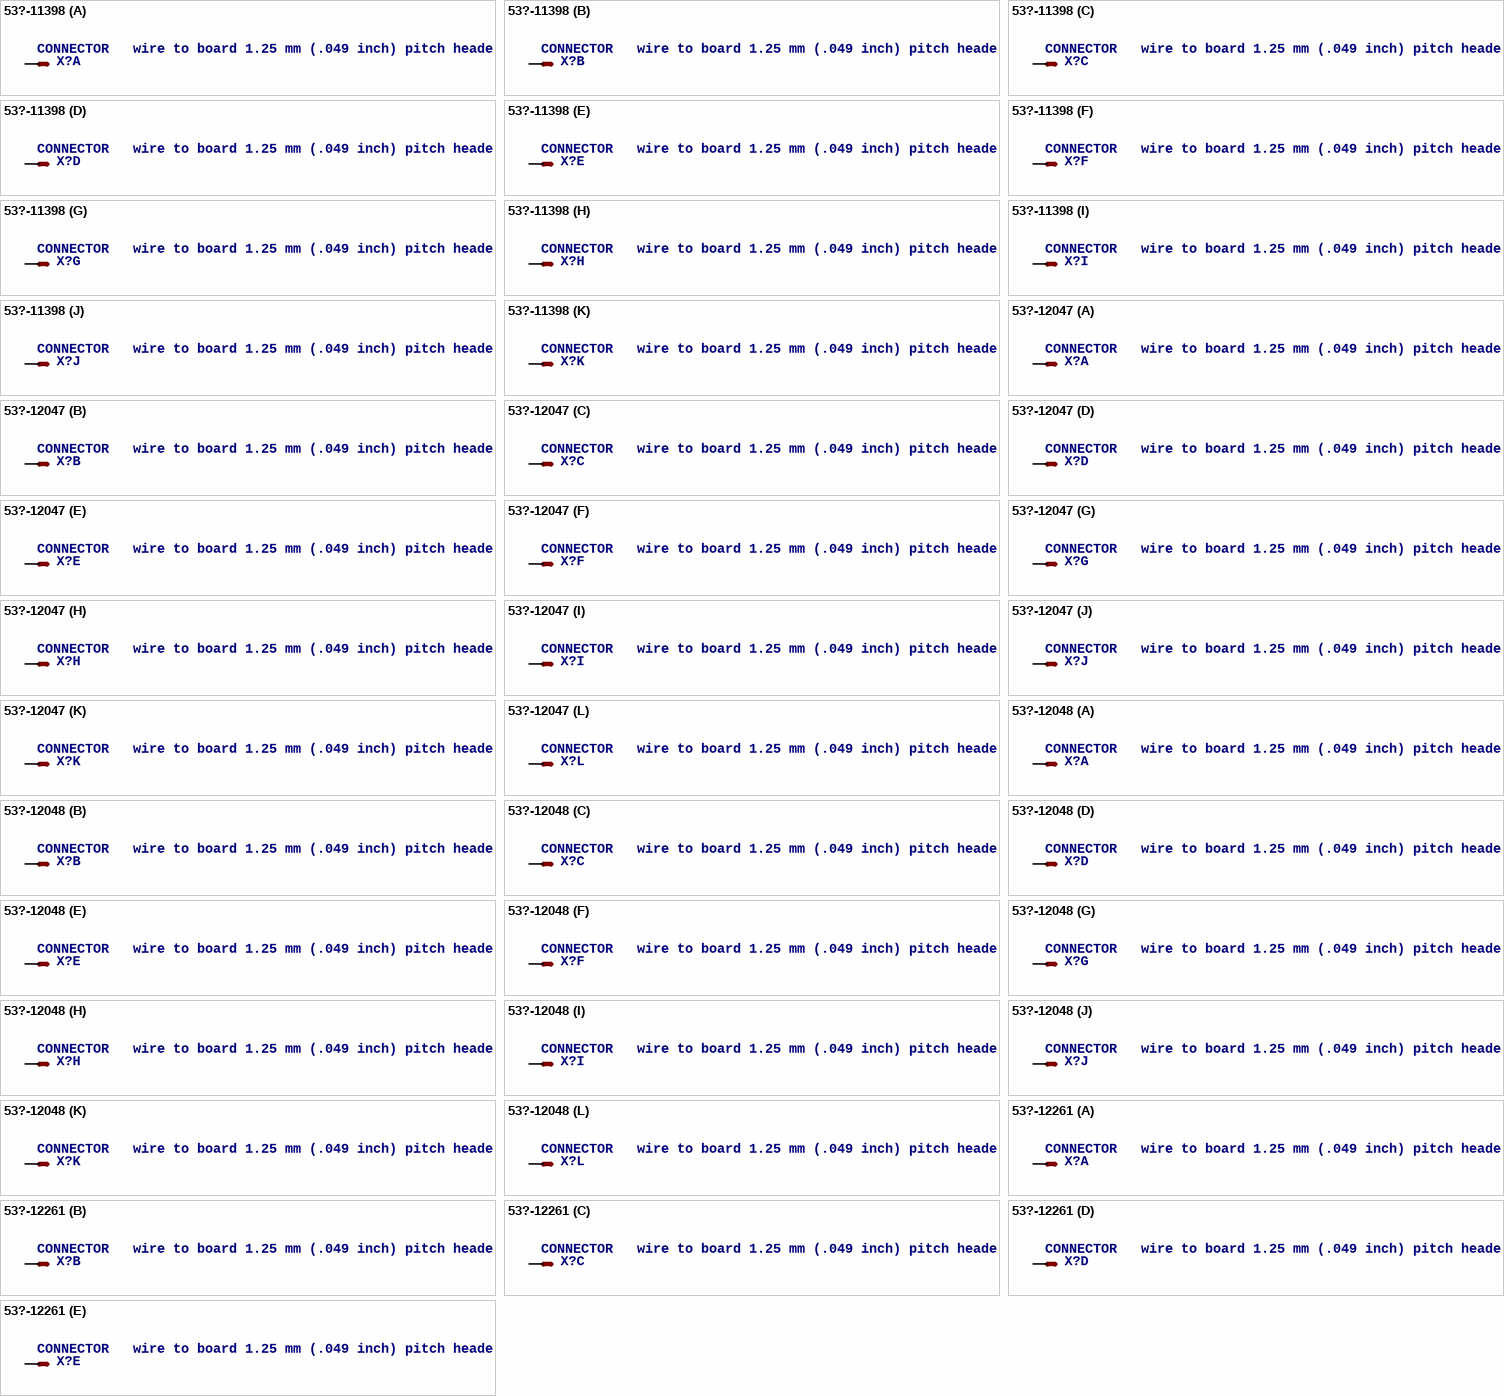
[diagram p12: symbols 53?-11398 to 53?-12261]

## 53?-11398
designator X?, comment CONNECTOR   wire to board 1.25 mm (.049 inch) pitch header
OC_FARNELL: 9786376; OC_NEWARK: unknown
footprint 53398-11
part A pins: 1 S
part B pins: 2 S
part C pins: 3 S
part D pins: 4 S
part E pins: 5 S
part F pins: 6 S
part G pins: 7 S
part H pins: 8 S
part I pins: 9 S
part J pins: 10 S
part K pins: 11 S

## 53?-12047
designator X?, comment CONNECTOR   wire to board 1.25 mm (.049 inch) pitch header
MPN: 53047-1210; MF: WALDOM/MOLEX; OC_FARNELL: 9732896; OC_NEWARK: 18M8169
footprint 53047-12
part A pins: 1 S
part B pins: 2 S
part C pins: 3 S
part D pins: 4 S
part E pins: 5 S
part F pins: 6 S
part G pins: 7 S
part H pins: 8 S
part I pins: 9 S
part J pins: 10 S
part K pins: 11 S
part L pins: 12 S

## 53?-12048
designator X?, comment CONNECTOR   wire to board 1.25 mm (.049 inch) pitch header
MPN: 53048-1210; MF: WALDOM/MOLEX; OC_FARNELL: unknown; OC_NEWARK: 71H4145
footprint 53048-12
part A pins: 1 S
part B pins: 2 S
part C pins: 3 S
part D pins: 4 S
part E pins: 5 S
part F pins: 6 S
part G pins: 7 S
part H pins: 8 S
part I pins: 9 S
part J pins: 10 S
part K pins: 11 S
part L pins: 12 S

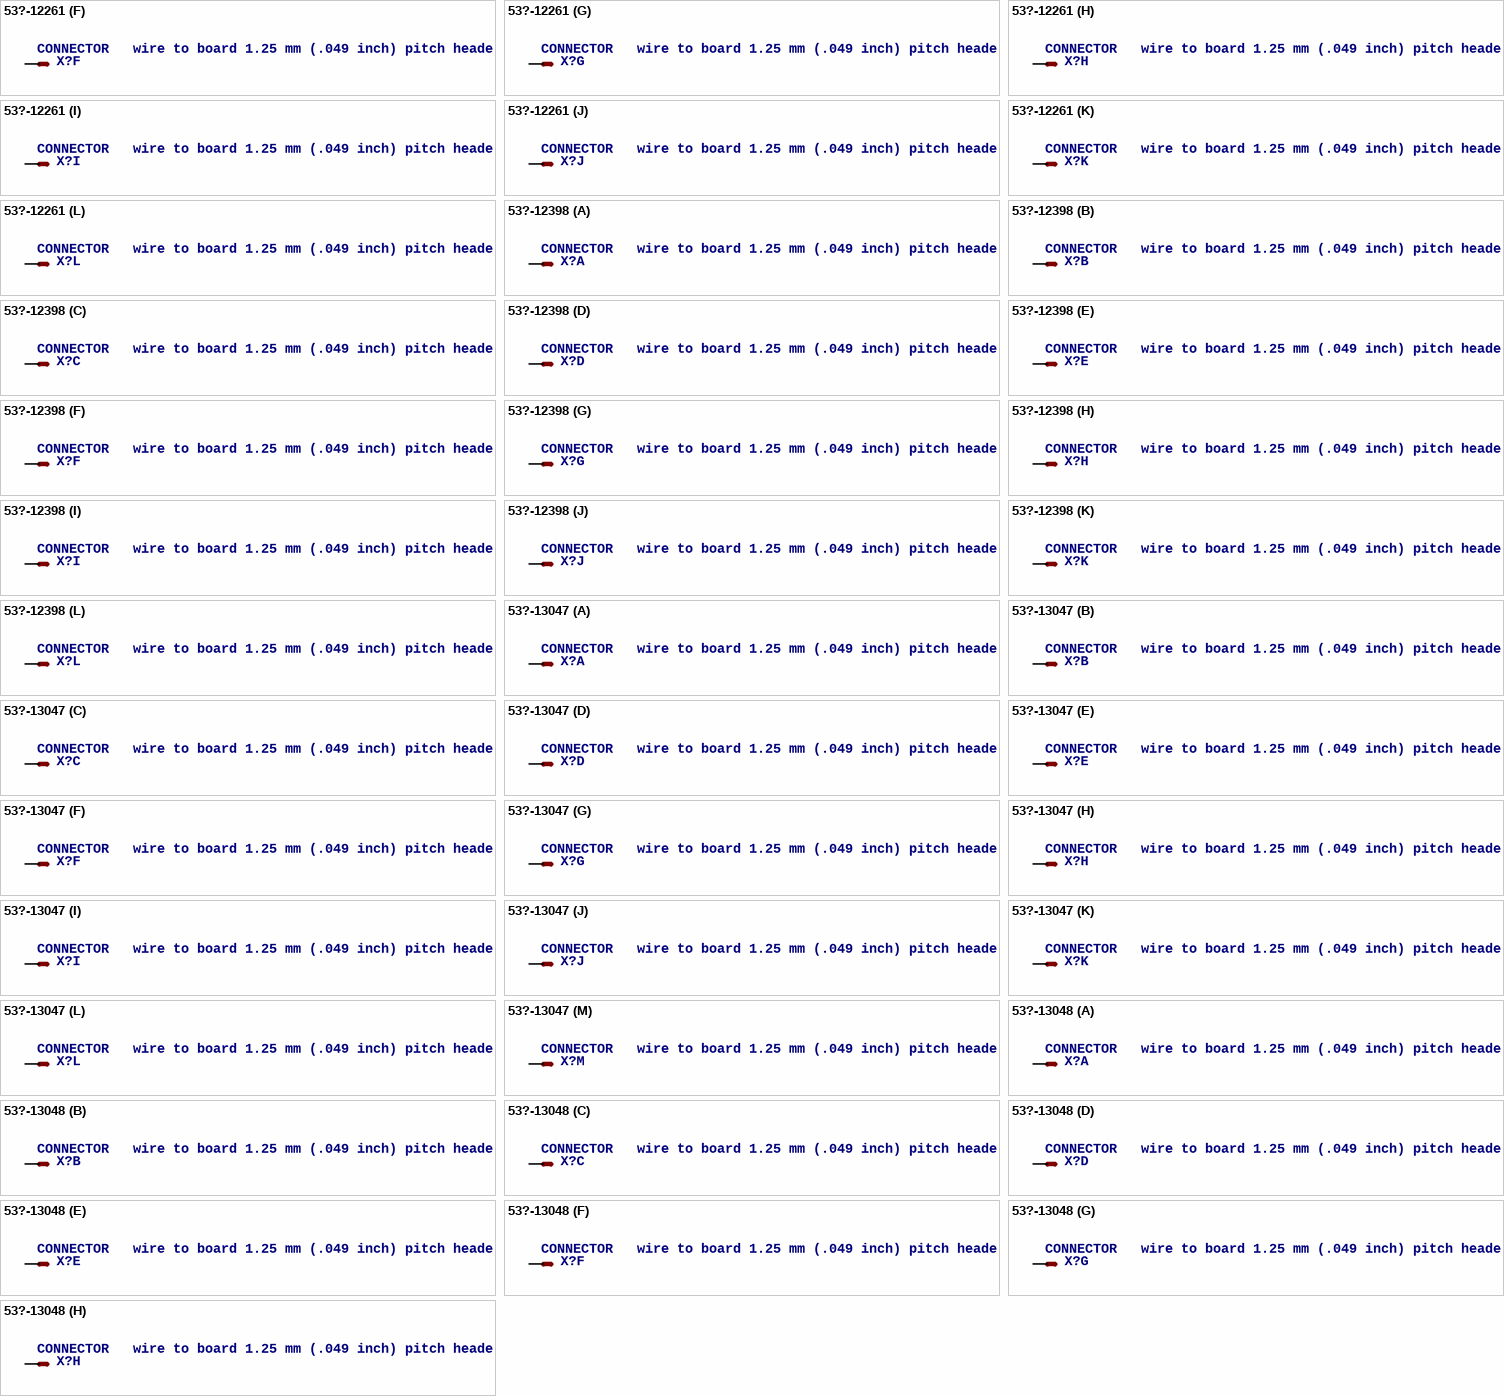
[diagram p13: symbols 53?-12261 to 53?-13048]

## 53?-12261
designator X?, comment CONNECTOR   wire to board 1.25 mm (.049 inch) pitch header
MPN: 53261-1271; MF: MOLEX; OC_FARNELL: 1125363; OC_NEWARK: 59J0244
footprint 53261-12
part A pins: 1 S
part B pins: 2 S
part C pins: 3 S
part D pins: 4 S
part E pins: 5 S
part F pins: 6 S
part G pins: 7 S
part H pins: 8 S
part I pins: 9 S
part J pins: 10 S
part K pins: 11 S
part L pins: 12 S

## 53?-12398
designator X?, comment CONNECTOR   wire to board 1.25 mm (.049 inch) pitch header
OC_FARNELL: 1125356; OC_NEWARK: unknown
footprint 53398-12
part A pins: 1 S
part B pins: 2 S
part C pins: 3 S
part D pins: 4 S
part E pins: 5 S
part F pins: 6 S
part G pins: 7 S
part H pins: 8 S
part I pins: 9 S
part J pins: 10 S
part K pins: 11 S
part L pins: 12 S

## 53?-13047
designator X?, comment CONNECTOR   wire to board 1.25 mm (.049 inch) pitch header
MPN: 53047-1310-C; OC_FARNELL: 1012238; OC_NEWARK: 03N7646
footprint 53047-13
part A pins: 1 S
part B pins: 2 S
part C pins: 3 S
part D pins: 4 S
part E pins: 5 S
part F pins: 6 S
part G pins: 7 S
part H pins: 8 S
part I pins: 9 S
part J pins: 10 S
part K pins: 11 S
part L pins: 12 S
part M pins: 13 S

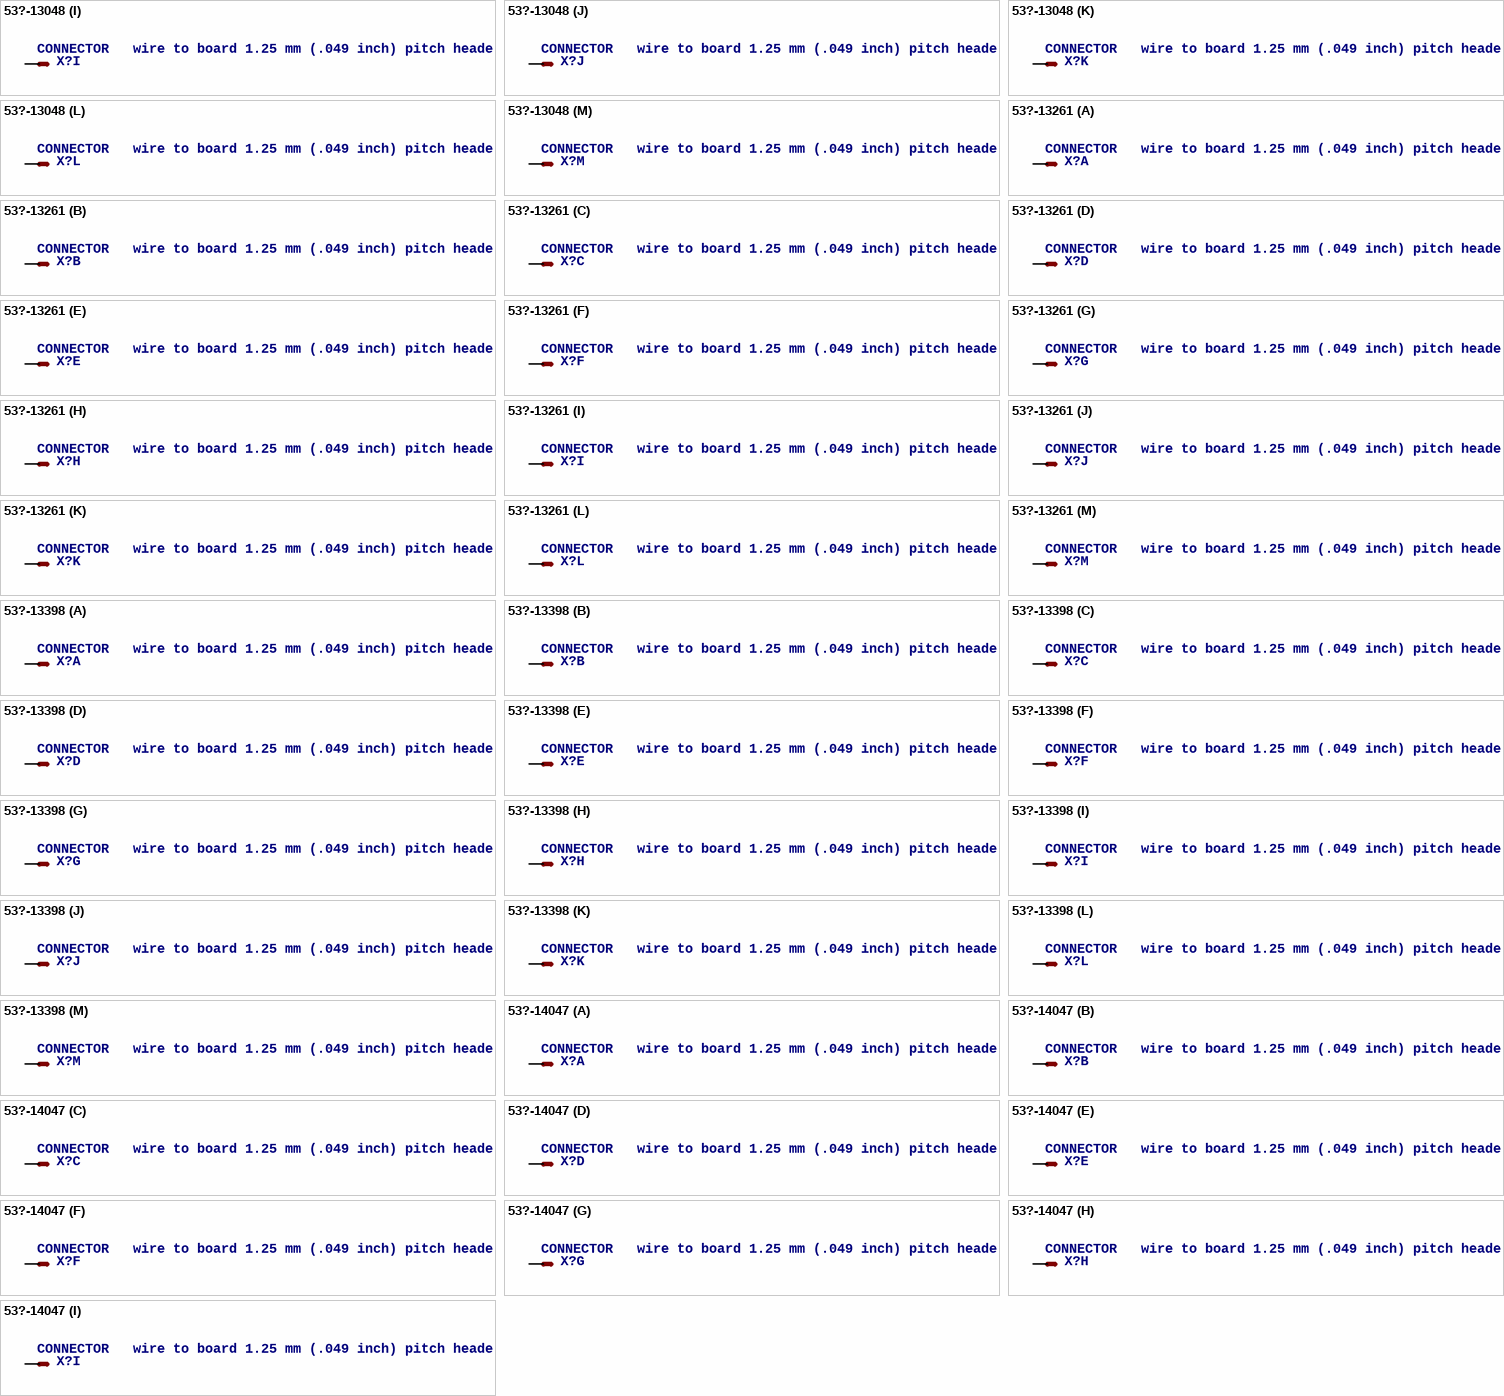
[diagram p14: symbols 53?-13048 to 53?-14047]

## 53?-13048
designator X?, comment CONNECTOR   wire to board 1.25 mm (.049 inch) pitch header
MPN: 53048-1310-C; OC_FARNELL: unknown; OC_NEWARK: 03N7647
footprint 53048-13
part A pins: 1 S
part B pins: 2 S
part C pins: 3 S
part D pins: 4 S
part E pins: 5 S
part F pins: 6 S
part G pins: 7 S
part H pins: 8 S
part I pins: 9 S
part J pins: 10 S
part K pins: 11 S
part L pins: 12 S
part M pins: 13 S

## 53?-13261
designator X?, comment CONNECTOR   wire to board 1.25 mm (.049 inch) pitch header
MPN: 53261-1371; OC_FARNELL: 1756927; OC_NEWARK: 92M6827
footprint 53261-13
part A pins: 1 S
part B pins: 2 S
part C pins: 3 S
part D pins: 4 S
part E pins: 5 S
part F pins: 6 S
part G pins: 7 S
part H pins: 8 S
part I pins: 9 S
part J pins: 10 S
part K pins: 11 S
part L pins: 12 S
part M pins: 13 S

## 53?-13398
designator X?, comment CONNECTOR   wire to board 1.25 mm (.049 inch) pitch header
OC_FARNELL: unknown; OC_NEWARK: unknown
footprint 53398-13
part A pins: 1 S
part B pins: 2 S
part C pins: 3 S
part D pins: 4 S
part E pins: 5 S
part F pins: 6 S
part G pins: 7 S
part H pins: 8 S
part I pins: 9 S
part J pins: 10 S
part K pins: 11 S
part L pins: 12 S
part M pins: 13 S

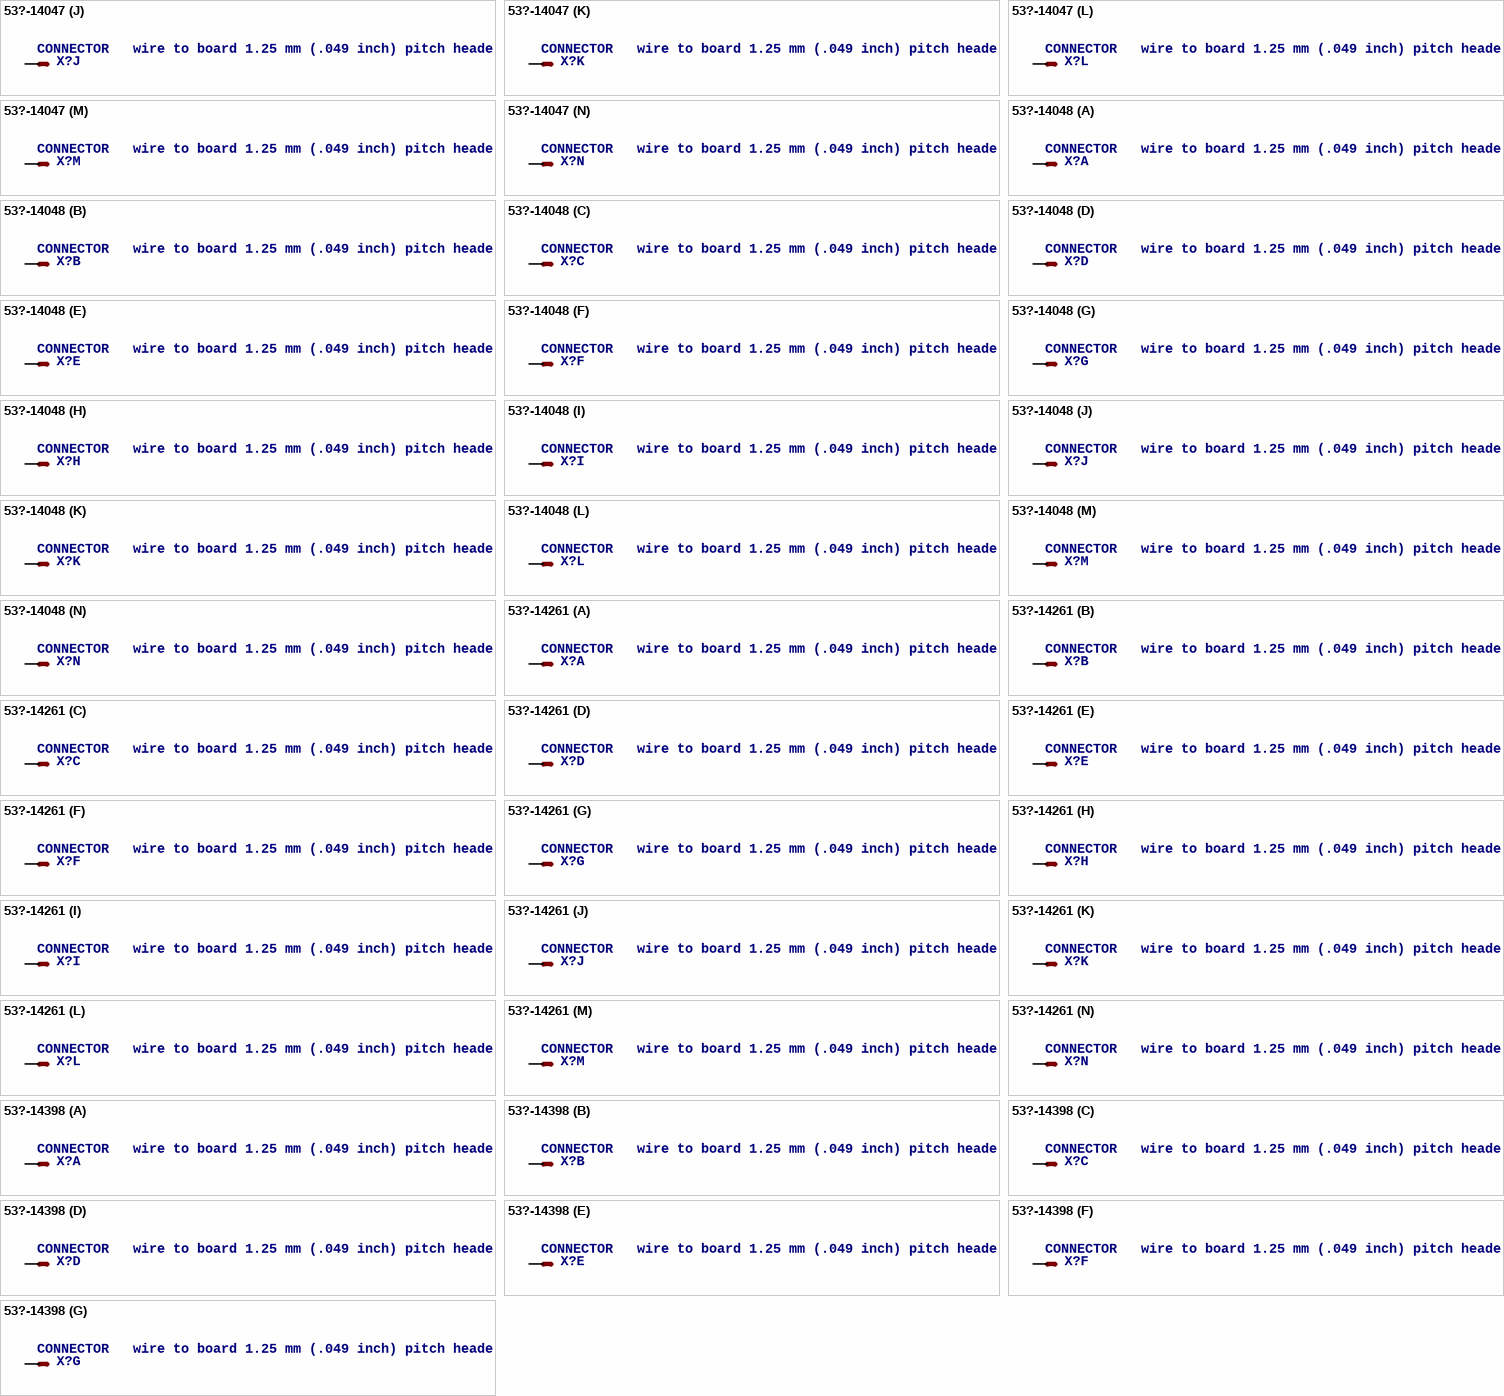
[diagram p15: symbols 53?-14047 to 53?-14398]

## 53?-14047
designator X?, comment CONNECTOR   wire to board 1.25 mm (.049 inch) pitch header
MPN: 53047-1410; OC_FARNELL: 9732900; OC_NEWARK: 98K9830
footprint 53047-14
part A pins: 1 S
part B pins: 2 S
part C pins: 3 S
part D pins: 4 S
part E pins: 5 S
part F pins: 6 S
part G pins: 7 S
part H pins: 8 S
part I pins: 9 S
part J pins: 10 S
part K pins: 11 S
part L pins: 12 S
part M pins: 13 S
part N pins: 14 S

## 53?-14048
designator X?, comment CONNECTOR   wire to board 1.25 mm (.049 inch) pitch header
MPN: 53048-1410; OC_FARNELL: 1012240; OC_NEWARK: 98K9839
footprint 53048-14
part A pins: 1 S
part B pins: 2 S
part C pins: 3 S
part D pins: 4 S
part E pins: 5 S
part F pins: 6 S
part G pins: 7 S
part H pins: 8 S
part I pins: 9 S
part J pins: 10 S
part K pins: 11 S
part L pins: 12 S
part M pins: 13 S
part N pins: 14 S

## 53?-14261
designator X?, comment CONNECTOR   wire to board 1.25 mm (.049 inch) pitch header
OC_FARNELL: 1125364; OC_NEWARK: unknown
footprint 53261-14
part A pins: 1 S
part B pins: 2 S
part C pins: 3 S
part D pins: 4 S
part E pins: 5 S
part F pins: 6 S
part G pins: 7 S
part H pins: 8 S
part I pins: 9 S
part J pins: 10 S
part K pins: 11 S
part L pins: 12 S
part M pins: 13 S
part N pins: 14 S

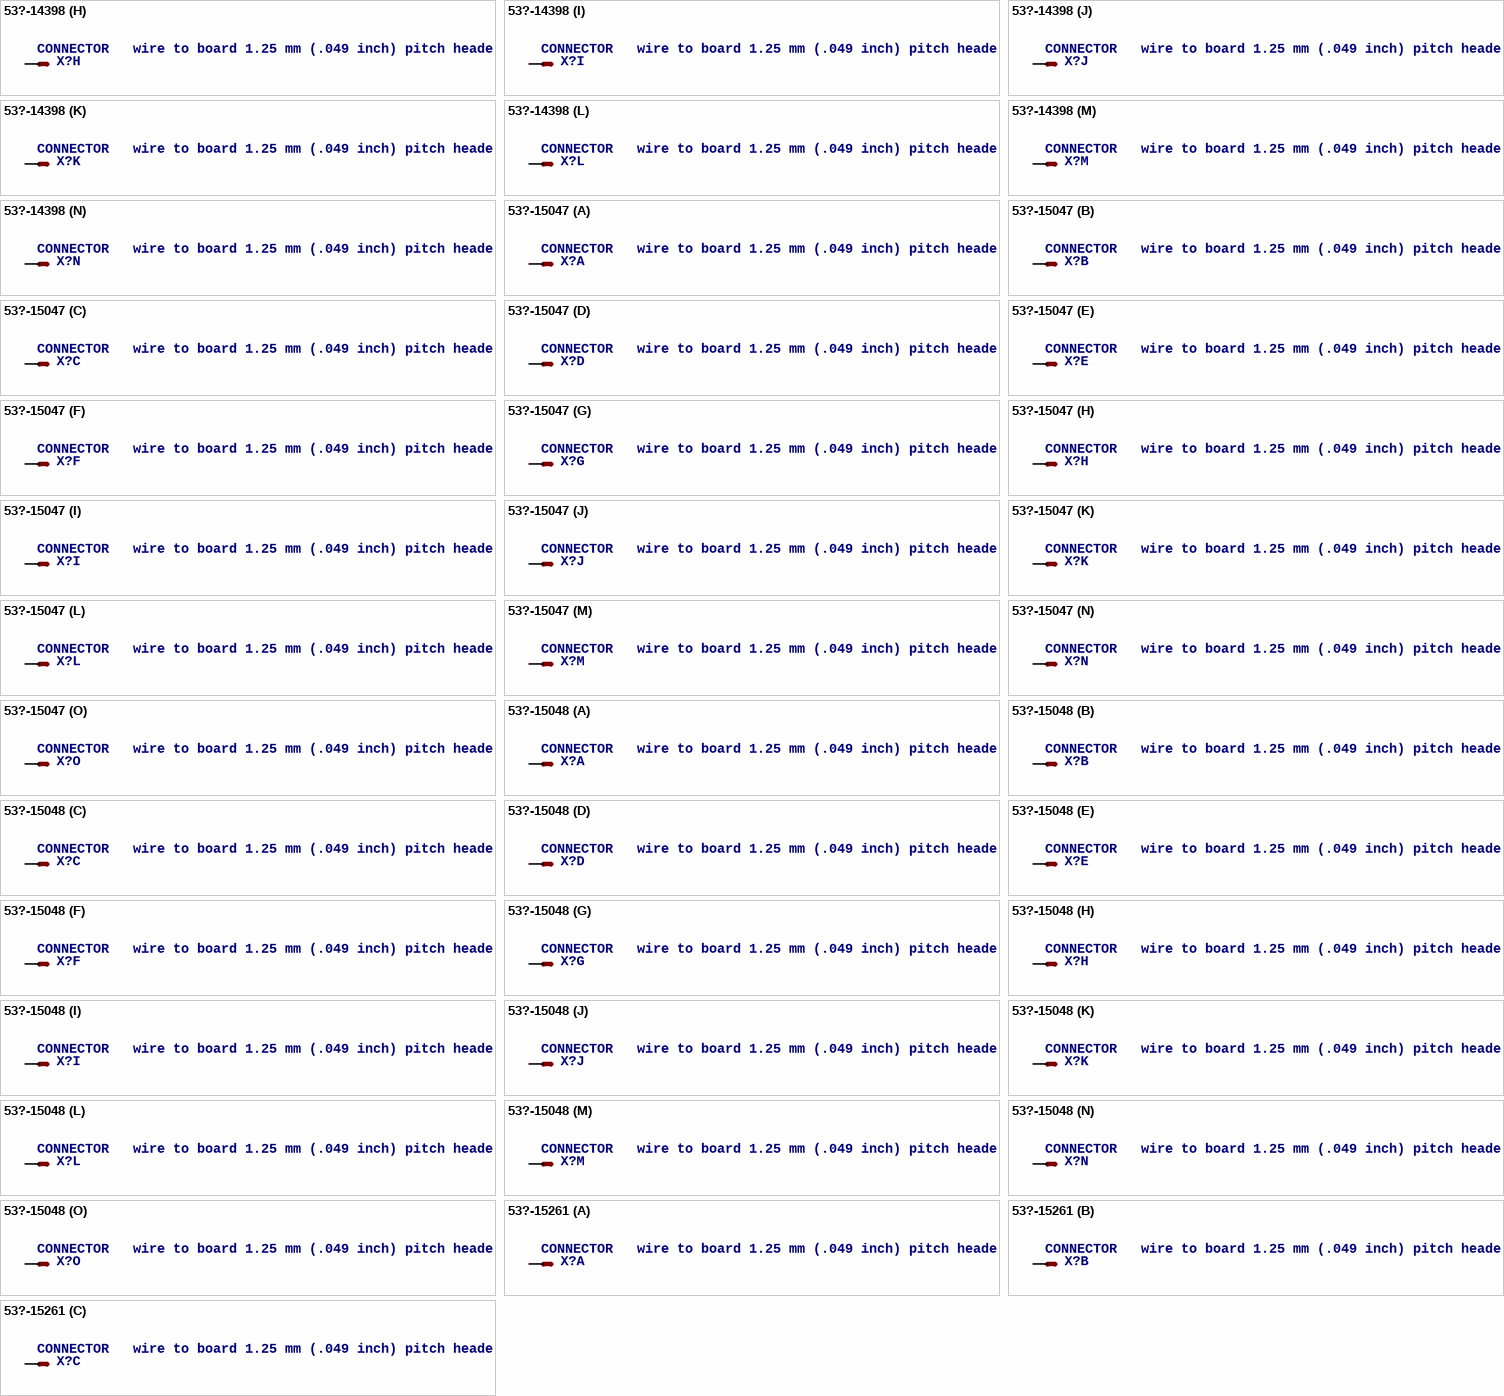
[diagram p16: symbols 53?-14398 to 53?-15261]

## 53?-14398
designator X?, comment CONNECTOR   wire to board 1.25 mm (.049 inch) pitch header
OC_FARNELL: 9786384; OC_NEWARK: unknown
footprint 53398-14
part A pins: 1 S
part B pins: 2 S
part C pins: 3 S
part D pins: 4 S
part E pins: 5 S
part F pins: 6 S
part G pins: 7 S
part H pins: 8 S
part I pins: 9 S
part J pins: 10 S
part K pins: 11 S
part L pins: 12 S
part M pins: 13 S
part N pins: 14 S

## 53?-15047
designator X?, comment CONNECTOR   wire to board 1.25 mm (.049 inch) pitch header
MPN: 53047-1510-C; OC_FARNELL: unknown; OC_NEWARK: 79K4146
footprint 53047-15
part A pins: 1 S
part B pins: 2 S
part C pins: 3 S
part D pins: 4 S
part E pins: 5 S
part F pins: 6 S
part G pins: 7 S
part H pins: 8 S
part I pins: 9 S
part J pins: 10 S
part K pins: 11 S
part L pins: 12 S
part M pins: 13 S
part N pins: 14 S
part O pins: 15 S

## 53?-15048
designator X?, comment CONNECTOR   wire to board 1.25 mm (.049 inch) pitch header
MPN: 53048-1510; OC_FARNELL: 9732942; OC_NEWARK: 98K9840
footprint 53048-15
part A pins: 1 S
part B pins: 2 S
part C pins: 3 S
part D pins: 4 S
part E pins: 5 S
part F pins: 6 S
part G pins: 7 S
part H pins: 8 S
part I pins: 9 S
part J pins: 10 S
part K pins: 11 S
part L pins: 12 S
part M pins: 13 S
part N pins: 14 S
part O pins: 15 S

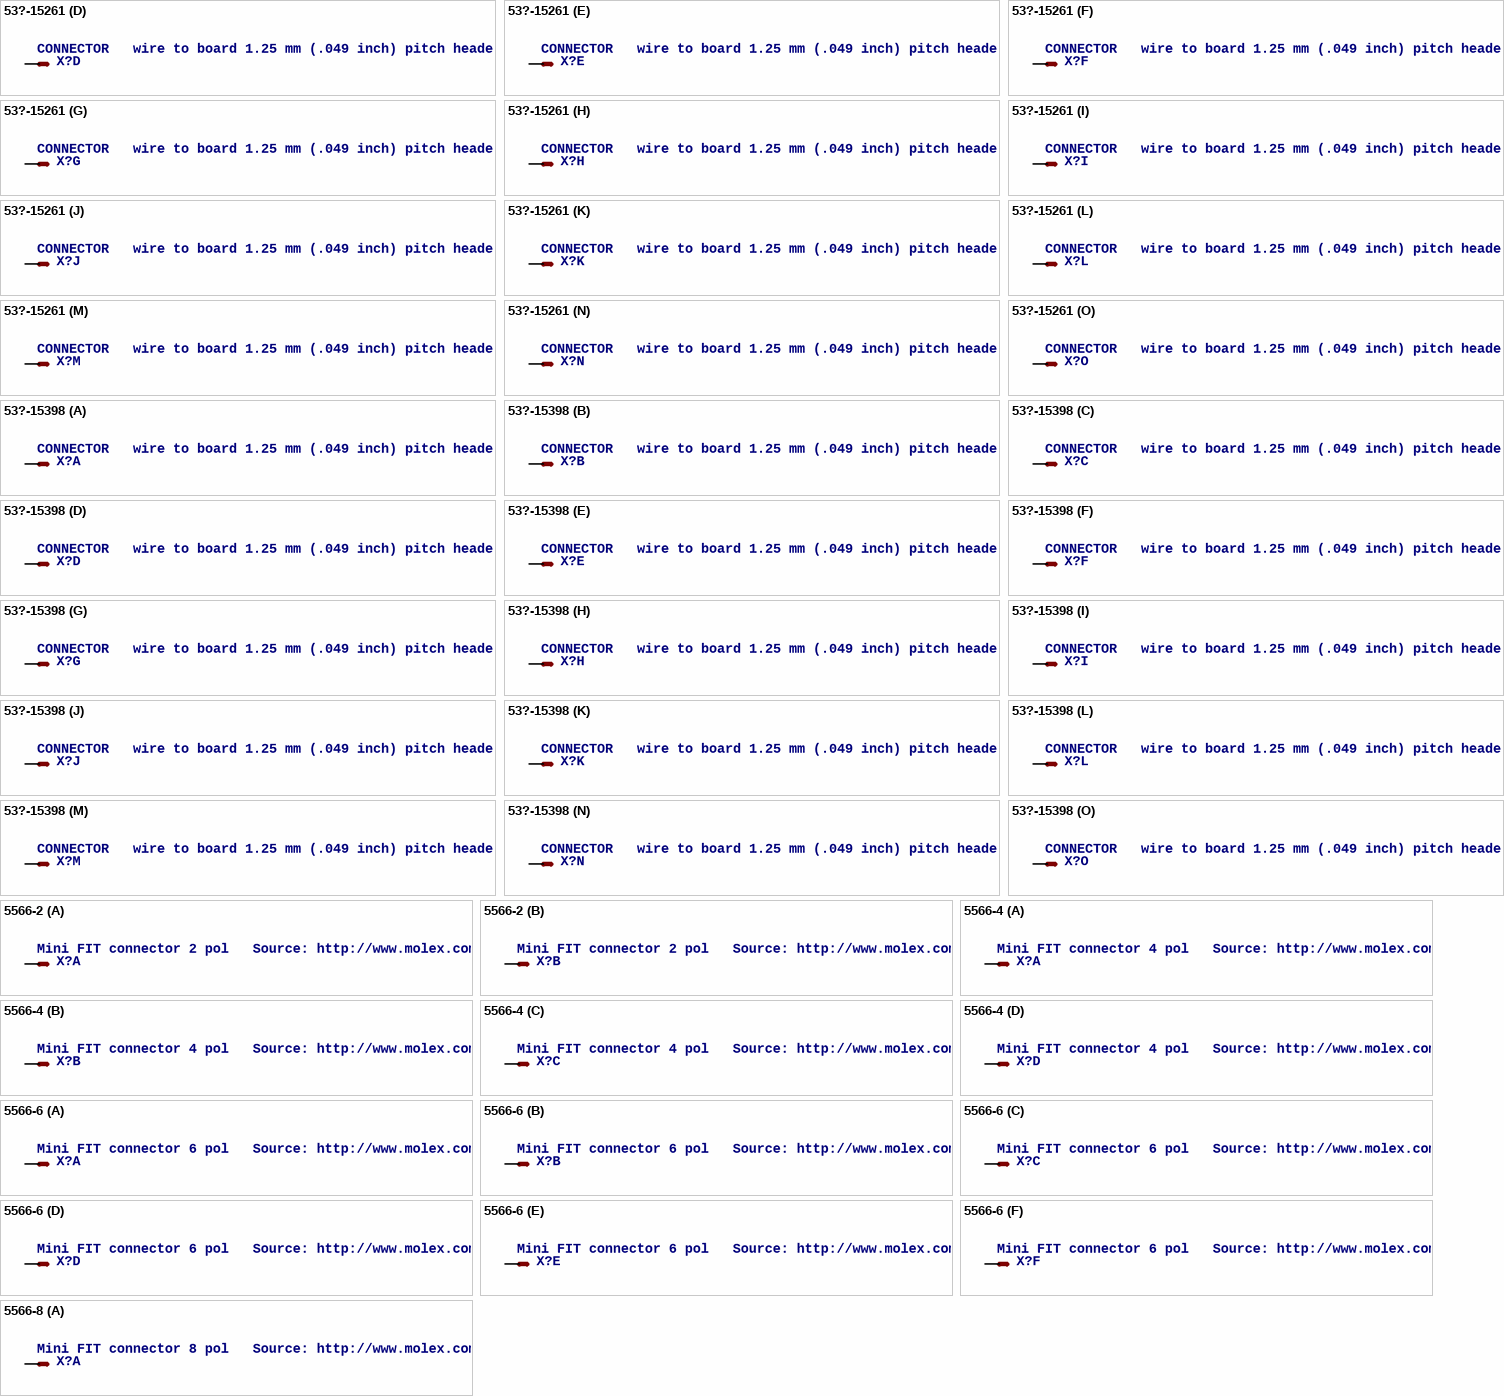
[diagram p17: symbols 53?-15261 to 5566-8]

## 53?-15261
designator X?, comment CONNECTOR   wire to board 1.25 mm (.049 inch) pitch header
OC_FARNELL: 1125365; OC_NEWARK: unknown
footprint 53261-15
part A pins: 1 S
part B pins: 2 S
part C pins: 3 S
part D pins: 4 S
part E pins: 5 S
part F pins: 6 S
part G pins: 7 S
part H pins: 8 S
part I pins: 9 S
part J pins: 10 S
part K pins: 11 S
part L pins: 12 S
part M pins: 13 S
part N pins: 14 S
part O pins: 15 S

## 53?-15398
designator X?, comment CONNECTOR   wire to board 1.25 mm (.049 inch) pitch header
MPN: 53398-1590; MF: MOLEX; OC_FARNELL: 1125358; OC_NEWARK: 57H5433
footprint 53398-15
part A pins: 1 S
part B pins: 2 S
part C pins: 3 S
part D pins: 4 S
part E pins: 5 S
part F pins: 6 S
part G pins: 7 S
part H pins: 8 S
part I pins: 9 S
part J pins: 10 S
part K pins: 11 S
part L pins: 12 S
part M pins: 13 S
part N pins: 14 S
part O pins: 15 S

## 5566-2
designator X?, comment Mini FIT connector 2 pol   Source: http://www.molex.com
OC_FARNELL: 1822072; OC_NEWARK: unknown
footprint 5566-2
part A pins: 1 S
part B pins: 2 S

## 5566-4
designator X?, comment Mini FIT connector 4 pol   Source: http://www.molex.com
OC_FARNELL: unknown; OC_NEWARK: unknown
footprint 5566-4
part A pins: 1 S
part B pins: 2 S
part C pins: 3 S
part D pins: 4 S

## 5566-6
designator X?, comment Mini FIT connector 6 pol   Source: http://www.molex.com
MPN: 95566-61002; OC_FARNELL: unknown; OC_NEWARK: 22K8620
footprint 5566-6
part A pins: 1 S
part B pins: 2 S
part C pins: 3 S
part D pins: 4 S
part E pins: 5 S
part F pins: 6 S

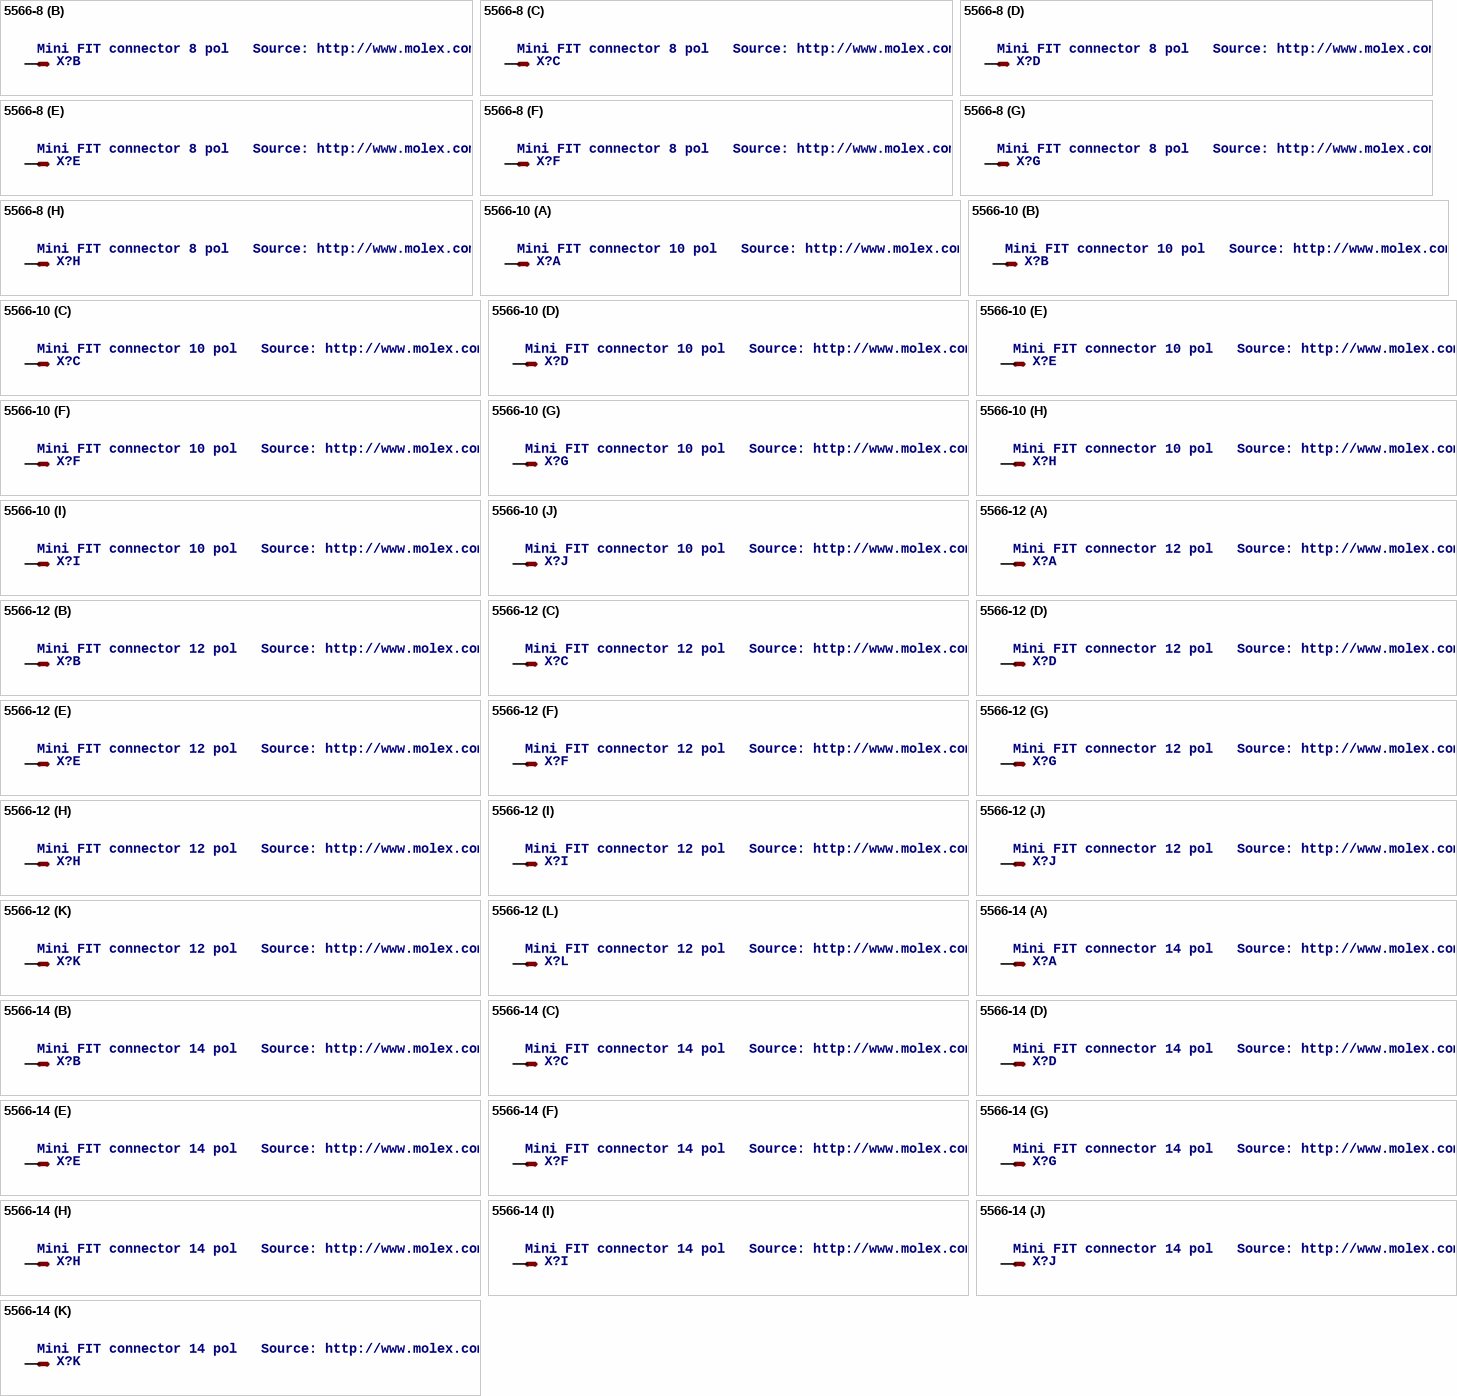
[diagram p18: symbols 5566-8 to 5566-14]

## 5566-8
designator X?, comment Mini FIT connector 8 pol   Source: http://www.molex.com
OC_FARNELL: unknown; OC_NEWARK: unknown
footprint 5566-8
part A pins: 1 S
part B pins: 2 S
part C pins: 3 S
part D pins: 4 S
part E pins: 5 S
part F pins: 6 S
part G pins: 7 S
part H pins: 8 S

## 5566-10
designator X?, comment Mini FIT connector 10 pol   Source: http://www.molex.com
OC_FARNELL: unknown; OC_NEWARK: unknown
footprint 5566-10
part A pins: 1 S
part B pins: 2 S
part C pins: 3 S
part D pins: 4 S
part E pins: 5 S
part F pins: 6 S
part G pins: 7 S
part H pins: 8 S
part I pins: 9 S
part J pins: 10 S

## 5566-12
designator X?, comment Mini FIT connector 12 pol   Source: http://www.molex.com
OC_FARNELL: unknown; OC_NEWARK: unknown
footprint 5566-12
part A pins: 1 S
part B pins: 2 S
part C pins: 3 S
part D pins: 4 S
part E pins: 5 S
part F pins: 6 S
part G pins: 7 S
part H pins: 8 S
part I pins: 9 S
part J pins: 10 S
part K pins: 11 S
part L pins: 12 S

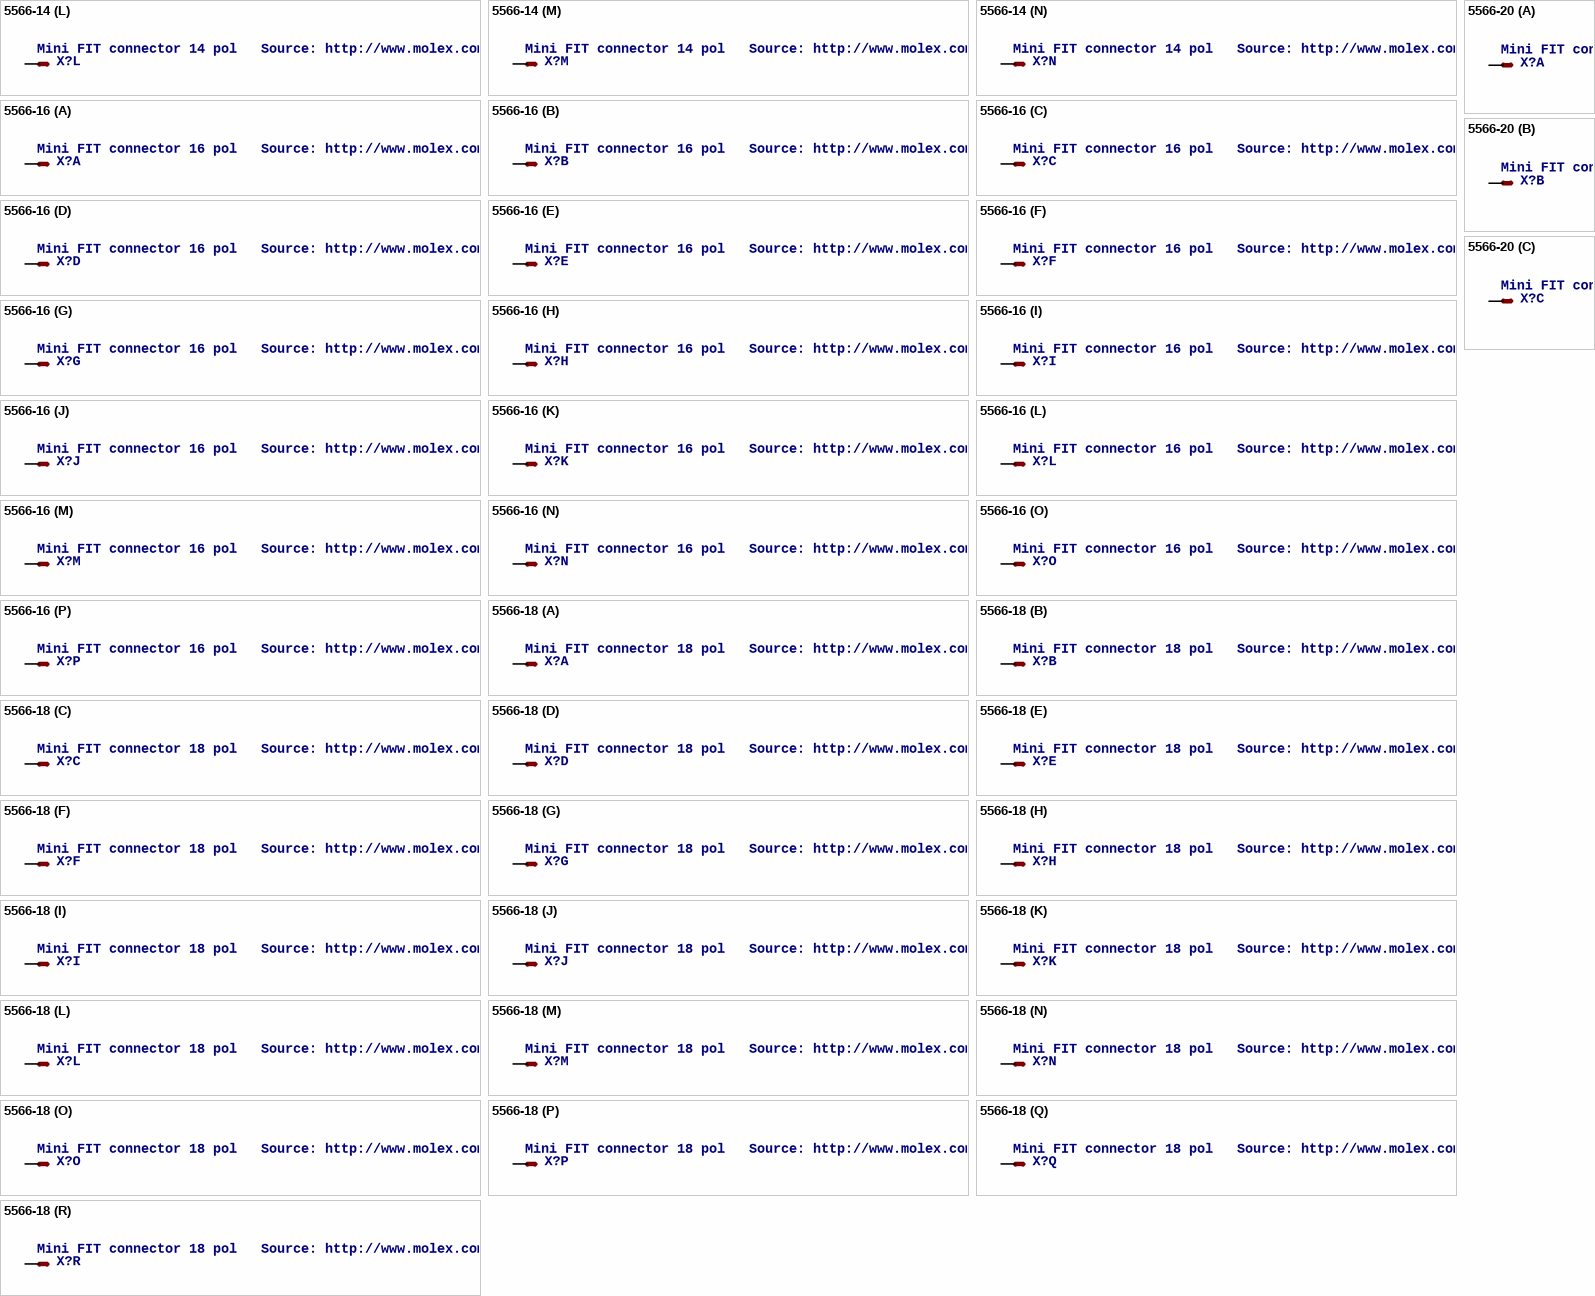
[diagram p19: symbols 5566-14 to 5566-20]

## 5566-14
designator X?, comment Mini FIT connector 14 pol   Source: http://www.molex.com
OC_FARNELL: unknown; OC_NEWARK: unknown
footprint 5566-14
part A pins: 1 S
part B pins: 2 S
part C pins: 3 S
part D pins: 4 S
part E pins: 5 S
part F pins: 6 S
part G pins: 7 S
part H pins: 8 S
part I pins: 9 S
part J pins: 10 S
part K pins: 11 S
part L pins: 12 S
part M pins: 13 S
part N pins: 14 S

## 5566-16
designator X?, comment Mini FIT connector 16 pol   Source: http://www.molex.com
OC_FARNELL: unknown; OC_NEWARK: unknown
footprint 5566-16
part A pins: 1 S
part B pins: 2 S
part C pins: 3 S
part D pins: 4 S
part E pins: 5 S
part F pins: 6 S
part G pins: 7 S
part H pins: 8 S
part I pins: 9 S
part J pins: 10 S
part K pins: 11 S
part L pins: 12 S
part M pins: 13 S
part N pins: 14 S
part O pins: 15 S
part P pins: 16 S

## 5566-18
designator X?, comment Mini FIT connector 18 pol   Source: http://www.molex.com
OC_FARNELL: unknown; OC_NEWARK: unknown
footprint 5566-18
part A pins: 1 S
part B pins: 2 S
part C pins: 3 S
part D pins: 4 S
part E pins: 5 S
part F pins: 6 S
part G pins: 7 S
part H pins: 8 S
part I pins: 9 S
part J pins: 10 S
part K pins: 11 S
part L pins: 12 S
part M pins: 13 S
part N pins: 14 S
part O pins: 15 S
part P pins: 16 S
part Q pins: 17 S
part R pins: 18 S

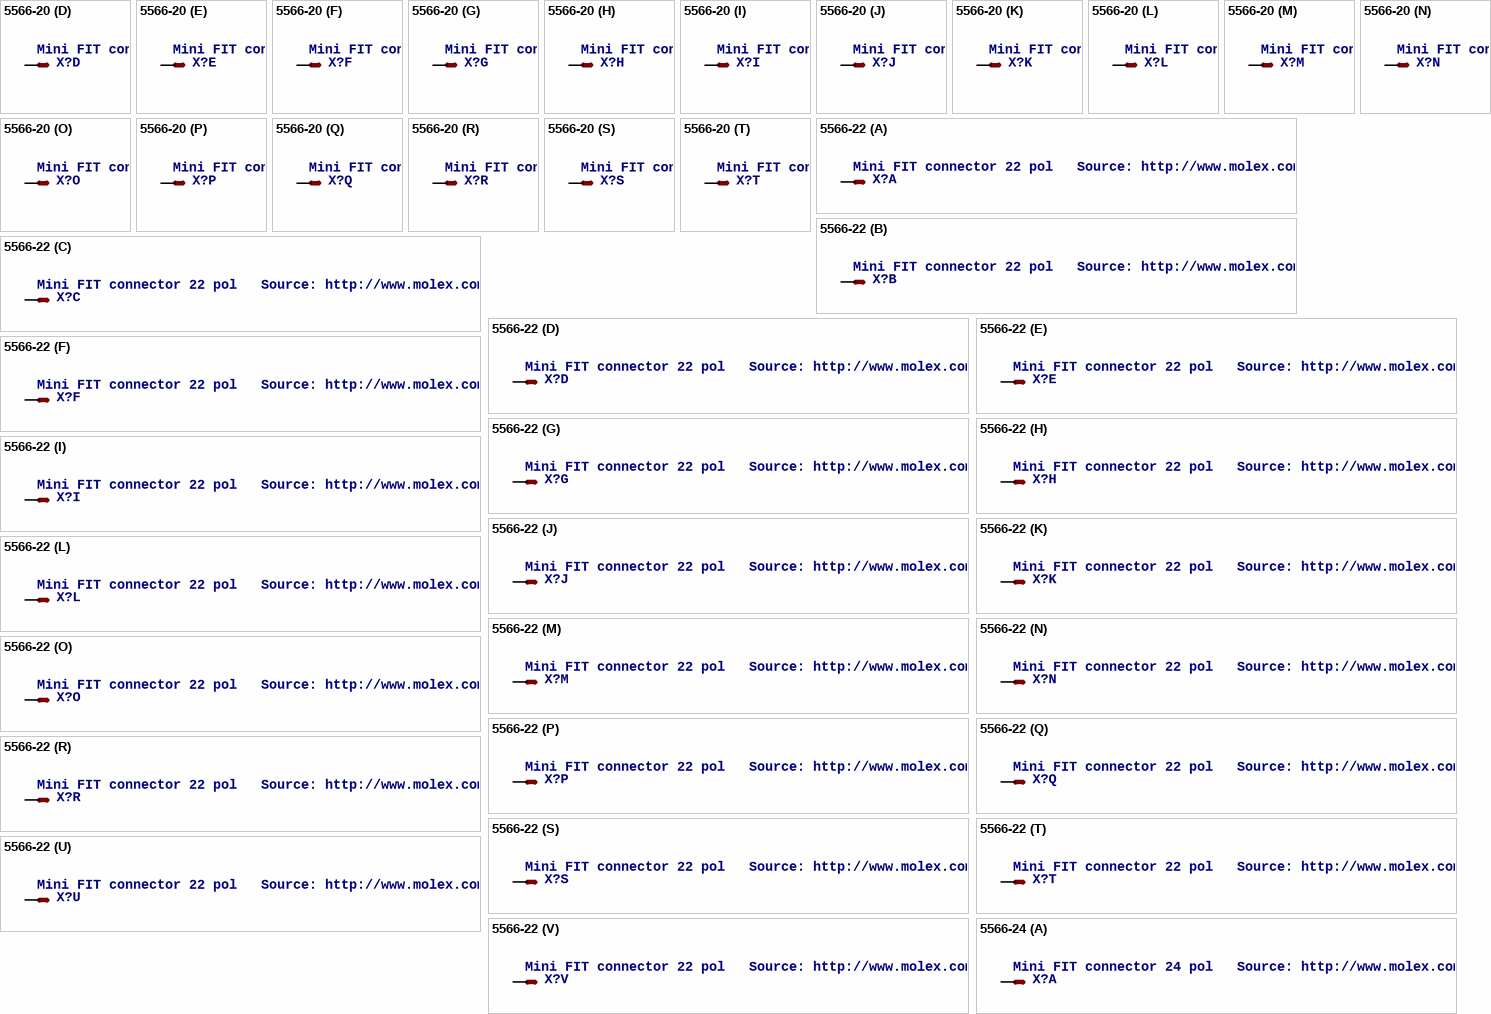
[diagram p20: symbols 5566-20 to 5566-24]

## 5566-20
designator X?, comment Mini FIT connector 20 pol   ATX PC-Motherboard Power connector Source: http://www.molex.com
OC_FARNELL: unknown; OC_NEWARK: unknown
footprint 5566-20
part A pins: 1 S
part B pins: 2 S
part C pins: 3 S
part D pins: 4 S
part E pins: 5 S
part F pins: 6 S
part G pins: 7 S
part H pins: 8 S
part I pins: 9 S
part J pins: 10 S
part K pins: 11 S
part L pins: 12 S
part M pins: 13 S
part N pins: 14 S
part O pins: 15 S
part P pins: 16 S
part Q pins: 17 S
part R pins: 18 S
part S pins: 19 S
part T pins: 20 S

## 5566-22
designator X?, comment Mini FIT connector 22 pol   Source: http://www.molex.com
OC_FARNELL: unknown; OC_NEWARK: unknown
footprint 5566-22
part A pins: 1 S
part B pins: 2 S
part C pins: 3 S
part D pins: 4 S
part E pins: 5 S
part F pins: 6 S
part G pins: 7 S
part H pins: 8 S
part I pins: 9 S
part J pins: 10 S
part K pins: 11 S
part L pins: 12 S
part M pins: 13 S
part N pins: 14 S
part O pins: 15 S
part P pins: 16 S
part Q pins: 17 S
part R pins: 18 S
part S pins: 19 S
part T pins: 20 S
part U pins: 21 S
part V pins: 22 S

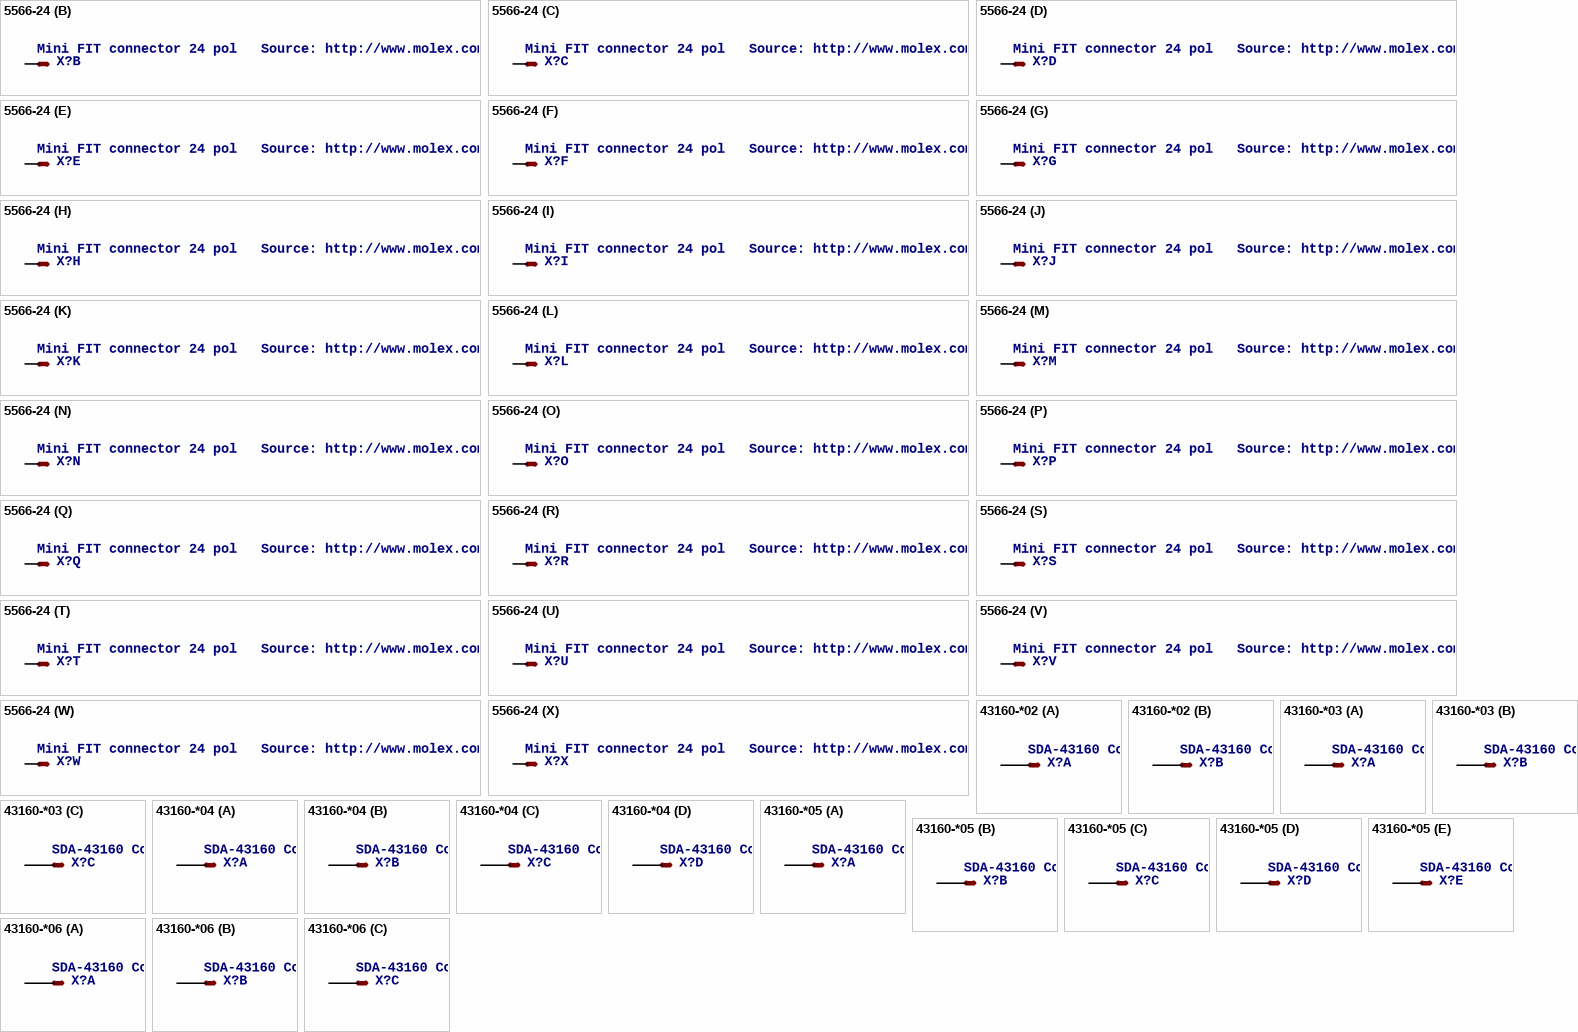
[diagram p21: symbols 5566-24 to 43160-*06]

## 5566-24
designator X?, comment Mini FIT connector 24 pol   Source: http://www.molex.com
OC_FARNELL: unknown; OC_NEWARK: unknown
footprint 5566-24
part A pins: 1 S
part B pins: 2 S
part C pins: 3 S
part D pins: 4 S
part E pins: 5 S
part F pins: 6 S
part G pins: 7 S
part H pins: 8 S
part I pins: 9 S
part J pins: 10 S
part K pins: 11 S
part L pins: 12 S
part M pins: 13 S
part N pins: 14 S
part O pins: 15 S
part P pins: 16 S
part Q pins: 17 S
part R pins: 18 S
part S pins: 19 S
part T pins: 20 S
part U pins: 21 S
part V pins: 22 S
part W pins: 23 S
part X pins: 24 S

## 43160-*02
designator X?, comment SDA-43160 Connector   Source: http://www.molex.com/pdm_docs/sd/431601306_sd.pdf
MPN: 43160-1102; MPN: 43160-1302; MPN: 43160-3102; MPN: 43160-5102; MPN: 43160-5302; MPN: 43160-7302; MF: WALDOM/MOLEX; OC_FARNELL: unknown; OC_NEWARK: 54H0255; OC_NEWARK: unknown; OC_NEWARK: 92M1480; OC_FARNELL: 3293038; OC_NEWARK: 54H0264; OC_NEWARK: 92M1493; OC_NEWARK: 92M1498; OC_NEWARK: 92M1507
footprint 43160-XX02
part A pins: 1@1 S@1, 1@2 S@2
part B pins: 2@1 S@1, 2@2 S@2

## 43160-*03
designator X?, comment SDA-43160 Connector   Source: http://www.molex.com/pdm_docs/sd/431601306_sd.pdf
MPN: 43160-1303; MPN: 43160-3103; MPN: 43160-5103; MPN: 43160-5303; MPN: 43160-7303; MF: WALDOM/MOLEX; OC_FARNELL: unknown; OC_NEWARK: unknown; OC_NEWARK: 92M1481; OC_FARNELL: 3293040; OC_NEWARK: 54H0265; OC_NEWARK: 92M1494; OC_NEWARK: 92M1499; OC_NEWARK: 92M1508
footprint 43160-XX03
part A pins: 1@1 S@1, 1@2 S@2
part B pins: 2@1 S@1, 2@2 S@2
part C pins: 3@1 S@1, 3@2 S@2

## 43160-*04
designator X?, comment SDA-43160 Connector   Source: http://www.molex.com/pdm_docs/sd/431601306_sd.pdf
MPN: 43160-1104; MPN: 43160-1304; MPN: 43160-3104; MPN: 43160-5104; MPN: 43160-5304; MPN: 43160-7304; MF: WALDOM/MOLEX; MF: FARNELL; OC_FARNELL: unknown; OC_NEWARK: 54H0257; OC_NEWARK: unknown; OC_NEWARK: 92M1482; OC_FARNELL: 3293051; OC_NEWARK: 19J5462; OC_NEWARK: 92M1495; OC_NEWARK: 92M1500; OC_NEWARK: 92M1509
footprint 43160-XX04
part A pins: 1@1 S@1, 1@2 S@2
part B pins: 2@1 S@1, 2@2 S@2
part C pins: 3@1 S@1, 3@2 S@2
part D pins: 4@1 S@1, 4@2 S@2

## 43160-*05
designator X?, comment SDA-43160 Connector   Source: http://www.molex.com/pdm_docs/sd/431601306_sd.pdf
MPN: 43160-1105; MPN: 43160-1305; MPN: 43160-3105; MPN: 43160-5105; MPN: 43160-5305; MPN: 43160-7305; MF: WALDOM/MOLEX; OC_FARNELL: unknown; OC_NEWARK: 54H0258; OC_NEWARK: unknown; OC_NEWARK: 92M1483; OC_NEWARK: 54H0267; OC_NEWARK: 92M1496; OC_NEWARK: 92M1501; OC_NEWARK: 92M1510
footprint 43160-XX05
part A pins: 1@1 S@1, 1@2 S@2
part B pins: 2@1 S@1, 2@2 S@2
part C pins: 3@1 S@1, 3@2 S@2
part D pins: 4@1 S@1, 4@2 S@2
part E pins: 5@1 S@1, 5@2 S@2

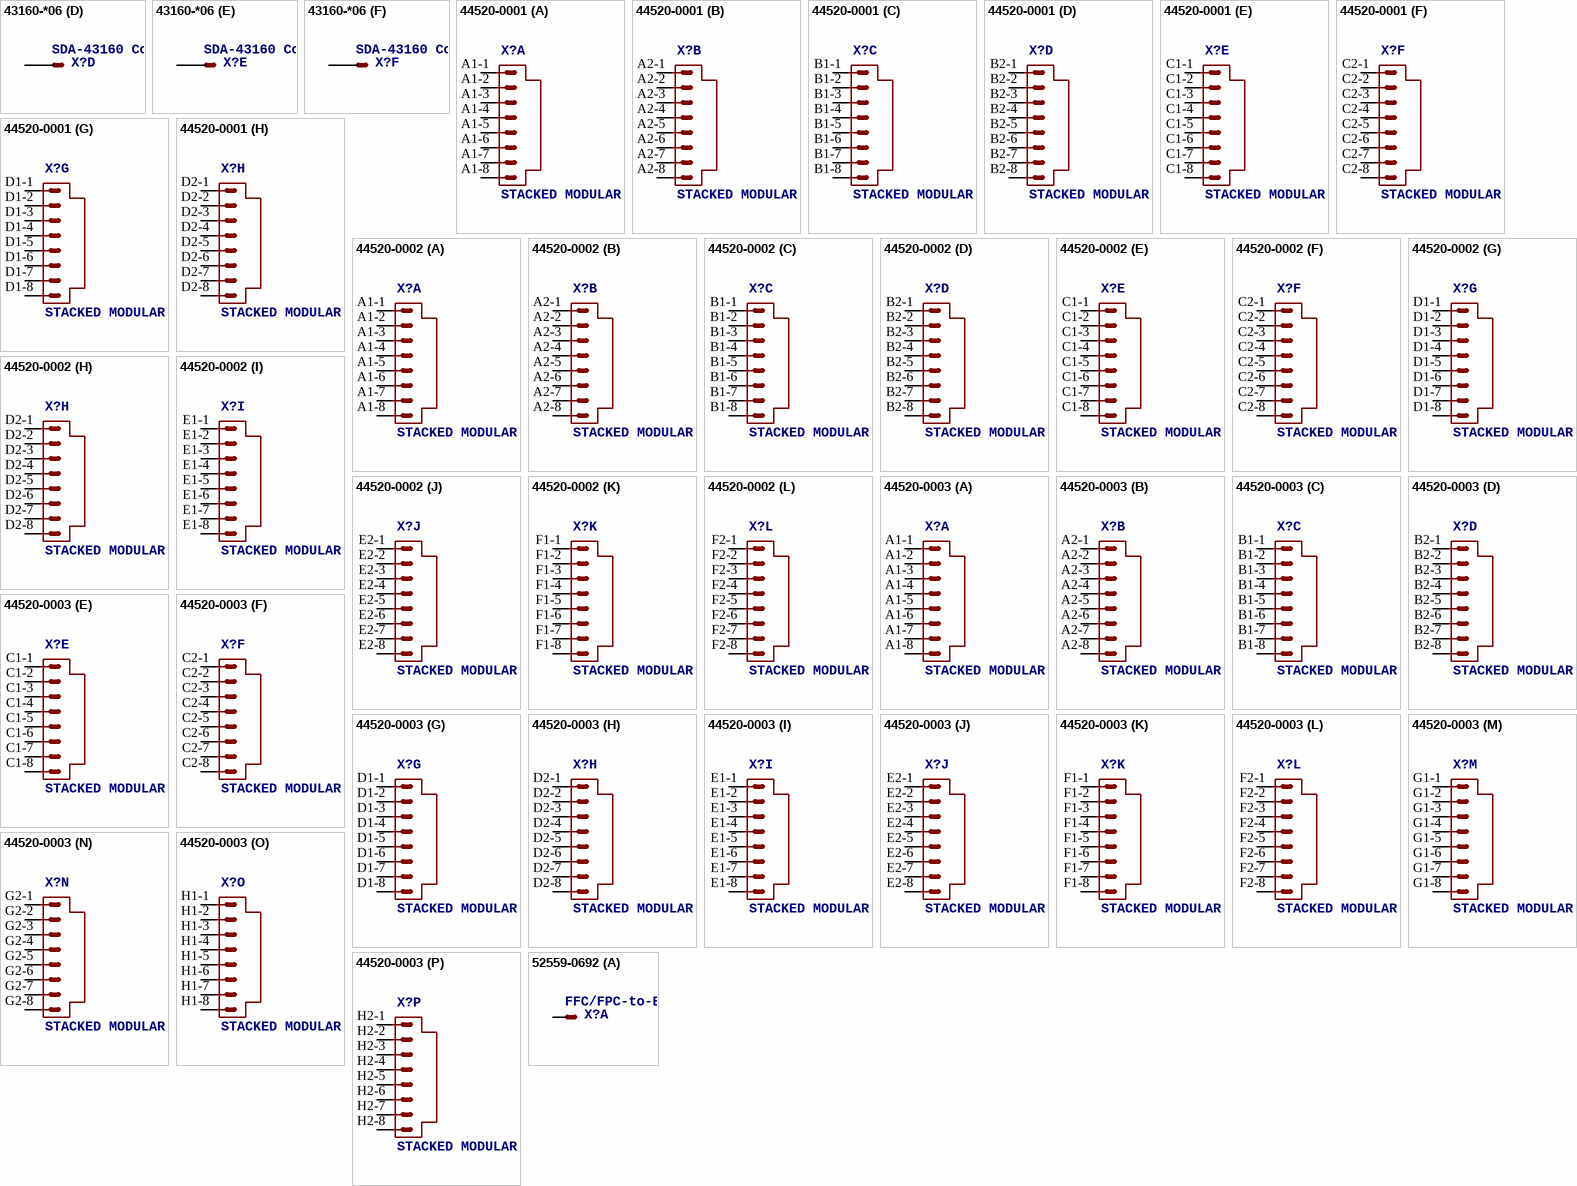
[diagram p22: symbols 43160-*06 to 52559-0692]

## 43160-*06
designator X?, comment SDA-43160 Connector   Source: http://www.molex.com/pdm_docs/sd/431601306_sd.pdf
MPN: 43160-1106; MPN: 43160-1306; MPN: 43160-3106; MPN: 43160-5106; MPN: 43160-5306; MPN: 43160-7306; MF: WALDOM/MOLEX; OC_FARNELL: unknown; OC_NEWARK: 54H0259; OC_NEWARK: unknown; OC_NEWARK: 92M1484; OC_FARNELL: 3293075; OC_NEWARK: 54H0268; OC_NEWARK: 92M1497; OC_NEWARK: 92M1502; OC_NEWARK: 92M1511
footprint 43160-XX06
part A pins: 1@1 S@1, 1@2 S@2
part B pins: 2@1 S@1, 2@2 S@2
part C pins: 3@1 S@1, 3@2 S@2
part D pins: 4@1 S@1, 4@2 S@2
part E pins: 5@1 S@1, 5@2 S@2
part F pins: 6@1 S@1, 6@2 S@2

## 44520-0001
designator X?, comment STACKED MODULAR JACK CATEGORY 5   Source: http://www.molex.com/pdm_docs/sd/445200006_sd.pdf
MPN: 44520-0001; OC_FARNELL: unknown; OC_NEWARK: 92C1819
footprint 44520-0001
part A pins: A1-1 1, A1-2 2, A1-3 3, A1-4 4, A1-5 5, A1-6 6, A1-7 7, A1-8 8
part B pins: A2-1 1, A2-2 2, A2-3 3, A2-4 4, A2-5 5, A2-6 6, A2-7 7, A2-8 8
part C pins: B1-1 1, B1-2 2, B1-3 3, B1-4 4, B1-5 5, B1-6 6, B1-7 7, B1-8 8
part D pins: B2-1 1, B2-2 2, B2-3 3, B2-4 4, B2-5 5, B2-6 6, B2-7 7, B2-8 8
part E pins: C1-1 1, C1-2 2, C1-3 3, C1-4 4, C1-5 5, C1-6 6, C1-7 7, C1-8 8
part F pins: C2-1 1, C2-2 2, C2-3 3, C2-4 4, C2-5 5, C2-6 6, C2-7 7, C2-8 8
part G pins: D1-1 1, D1-2 2, D1-3 3, D1-4 4, D1-5 5, D1-6 6, D1-7 7, D1-8 8
part H pins: D2-1 1, D2-2 2, D2-3 3, D2-4 4, D2-5 5, D2-6 6, D2-7 7, D2-8 8

## 44520-0002
designator X?, comment STACKED MODULAR JACK CATEGORY 5   Source: http://www.molex.com/pdm_docs/sd/445200006_sd.pdf
MPN: 44520-0002; OC_FARNELL: unknown; OC_NEWARK: 92M2840
footprint 44520-0002
part A pins: A1-1 1, A1-2 2, A1-3 3, A1-4 4, A1-5 5, A1-6 6, A1-7 7, A1-8 8
part B pins: A2-1 1, A2-2 2, A2-3 3, A2-4 4, A2-5 5, A2-6 6, A2-7 7, A2-8 8
part C pins: B1-1 1, B1-2 2, B1-3 3, B1-4 4, B1-5 5, B1-6 6, B1-7 7, B1-8 8
part D pins: B2-1 1, B2-2 2, B2-3 3, B2-4 4, B2-5 5, B2-6 6, B2-7 7, B2-8 8
part E pins: C1-1 1, C1-2 2, C1-3 3, C1-4 4, C1-5 5, C1-6 6, C1-7 7, C1-8 8
part F pins: C2-1 1, C2-2 2, C2-3 3, C2-4 4, C2-5 5, C2-6 6, C2-7 7, C2-8 8
part G pins: D1-1 1, D1-2 2, D1-3 3, D1-4 4, D1-5 5, D1-6 6, D1-7 7, D1-8 8
part H pins: D2-1 1, D2-2 2, D2-3 3, D2-4 4, D2-5 5, D2-6 6, D2-7 7, D2-8 8
part I pins: E1-1 1, E1-2 2, E1-3 3, E1-4 4, E1-5 5, E1-6 6, E1-7 7, E1-8 8
part J pins: E2-1 1, E2-2 2, E2-3 3, E2-4 4, E2-5 5, E2-6 6, E2-7 7, E2-8 8
part K pins: F1-1 1, F1-2 2, F1-3 3, F1-4 4, F1-5 5, F1-6 6, F1-7 7, F1-8 8
part L pins: F2-1 1, F2-2 2, F2-3 3, F2-4 4, F2-5 5, F2-6 6, F2-7 7, F2-8 8

## 44520-0003
designator X?, comment STACKED MODULAR JACK CATEGORY 5   Source: http://www.molex.com/pdm_docs/sd/445200006_sd.pdf
MPN: 44520-0003; OC_FARNELL: unknown; OC_NEWARK: 92M2841
footprint 44520-0003
part A pins: A1-1 1, A1-2 2, A1-3 3, A1-4 4, A1-5 5, A1-6 6, A1-7 7, A1-8 8
part B pins: A2-1 1, A2-2 2, A2-3 3, A2-4 4, A2-5 5, A2-6 6, A2-7 7, A2-8 8
part C pins: B1-1 1, B1-2 2, B1-3 3, B1-4 4, B1-5 5, B1-6 6, B1-7 7, B1-8 8
part D pins: B2-1 1, B2-2 2, B2-3 3, B2-4 4, B2-5 5, B2-6 6, B2-7 7, B2-8 8
part E pins: C1-1 1, C1-2 2, C1-3 3, C1-4 4, C1-5 5, C1-6 6, C1-7 7, C1-8 8
part F pins: C2-1 1, C2-2 2, C2-3 3, C2-4 4, C2-5 5, C2-6 6, C2-7 7, C2-8 8
part G pins: D1-1 1, D1-2 2, D1-3 3, D1-4 4, D1-5 5, D1-6 6, D1-7 7, D1-8 8
part H pins: D2-1 1, D2-2 2, D2-3 3, D2-4 4, D2-5 5, D2-6 6, D2-7 7, D2-8 8
part I pins: E1-1 1, E1-2 2, E1-3 3, E1-4 4, E1-5 5, E1-6 6, E1-7 7, E1-8 8
part J pins: E2-1 1, E2-2 2, E2-3 3, E2-4 4, E2-5 5, E2-6 6, E2-7 7, E2-8 8
part K pins: F1-1 1, F1-2 2, F1-3 3, F1-4 4, F1-5 5, F1-6 6, F1-7 7, F1-8 8
part L pins: F2-1 1, F2-2 2, F2-3 3, F2-4 4, F2-5 5, F2-6 6, F2-7 7, F2-8 8
part M pins: G1-1 1, G1-2 2, G1-3 3, G1-4 4, G1-5 5, G1-6 6, G1-7 7, G1-8 8
part N pins: G2-1 1, G2-2 2, G2-3 3, G2-4 4, G2-5 5, G2-6 6, G2-7 7, G2-8 8
part O pins: H1-1 1, H1-2 2, H1-3 3, H1-4 4, H1-5 5, H1-6 6, H1-7 7, H1-8 8
part P pins: H2-1 1, H2-2 2, H2-3 3, H2-4 4, H2-5 5, H2-6 6, H2-7 7, H2-8 8